# Altium integrated library Microchip Microcontroller 16-Bit PIC24F.IntLib: 123 symbols (part 3 of 7)
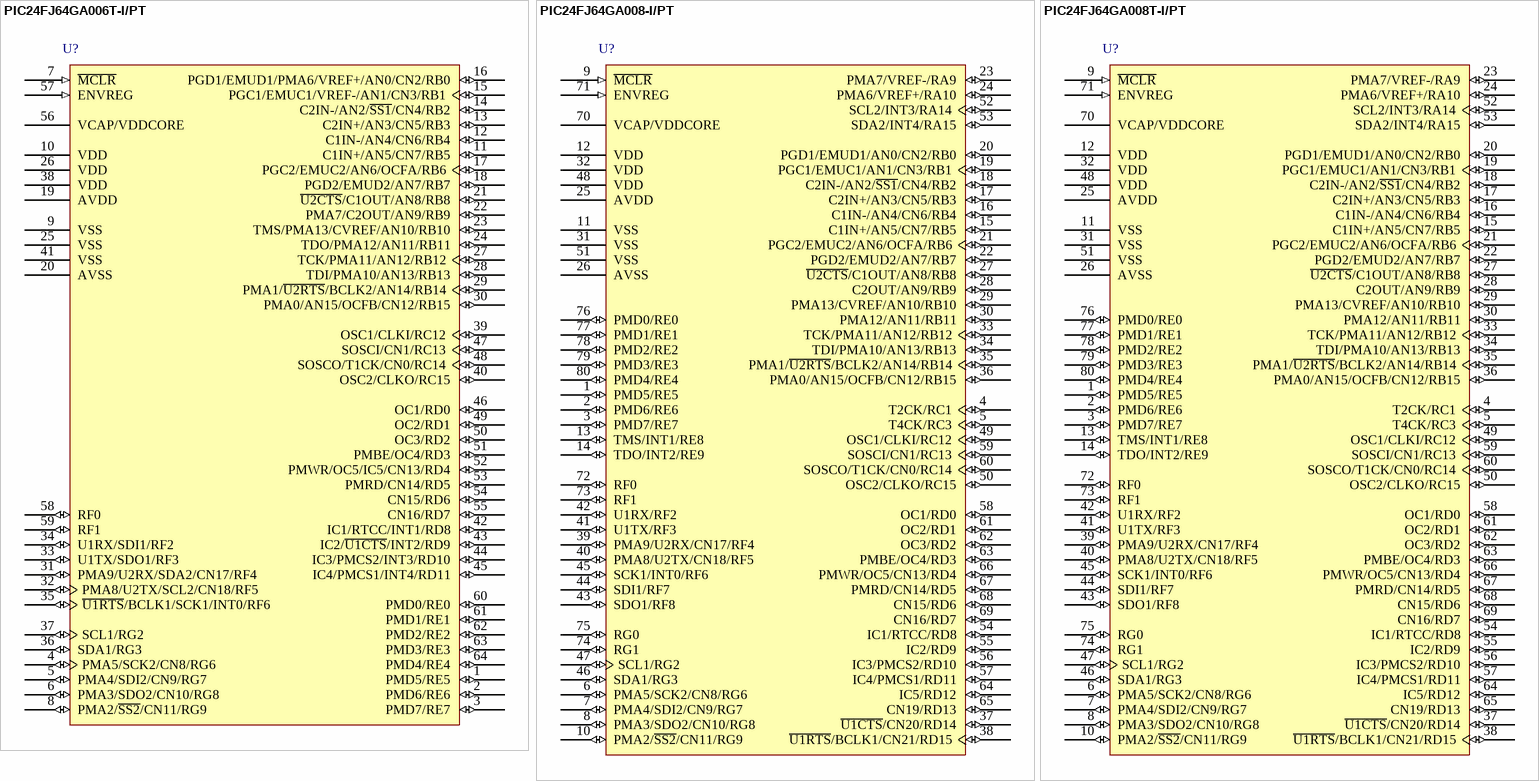
[diagram p37: symbols PIC24FJ64GA006T-I/PT to PIC24FJ64GA008T-I/PT]

## PIC24FJ64GA008-I/PT
designator U?
General Purpose 16-Bit Flash Microcontroller, 64KB Flash, 8KB SRAM, 80-Pin TQFP, Industrial Temperature; Published: 29-Jan-2009; DatasheetVersion: revD, Sep-2007; PackageVersion: revAW, Oct-2008; PackageReference: TQFP-PT80; Publisher: Altium Limited; PackageDescription: 80-Lead Thin Plastic Quad Flat Pack (PT) - 12x12x1mm Body, 2.00mm [TQFP]; Code_JEDEC: MS-026; ComponentLink1Description: Manufacturer Link; ComponentLink1URL: http://www.microchip.com; ComponentLink2Description: Datasheet; ComponentLink2URL: http://ww1.microchip.com/downloads/en/DeviceDoc/39747d.pdf; ComponentLink3Description: Packaging Specification; ComponentLink3URL: http://ww1.microchip.com/downloads/en/PackagingSpec/00049AW.pdf
footprint TQFP-PT80_N (Thin QFP, 80-Leads, Body 12x12mm, Pitch 0.5mm, IPC Medium Density)
footprint TQFP-PT80_L (Thin QFP, 80-Leads, Body 12x12mm, Pitch 0.5mm, IPC High Density)
footprint TQFP-PT80_M (Thin QFP, 80-Leads, Body 12x12mm, Pitch 0.5mm, IPC Low Density)
pins: 1 PMD5/RE5 (io), 2 PMD6/RE6 (io), 3 PMD7/RE7 (io), 4 T2CK/RC1 (io), 5 T4CK/RC3 (io), 6 PMA5/SCK2/CN8/RG6 (io), 7 PMA4/SDI2/CN9/RG7 (io), 8 PMA3/SDO2/CN10/RG8 (io), 9 ~{MCLR} (in), 10 PMA2/~{SS2}/CN11/RG9 (io), 11 VSS (power), 12 VDD (power), 13 TMS/INT1/RE8 (io), 14 TDO/INT2/RE9 (io), 15 C1IN+/AN5/CN7/RB5 (io), 16 C1IN-/AN4/CN6/RB4 (io), 17 C2IN+/AN3/CN5/RB3 (io), 18 C2IN-/AN2/~{SS1}/CN4/RB2 (io), 19 PGC1/EMUC1/AN1/CN3/RB1 (io), 20 PGD1/EMUD1/AN0/CN2/RB0 (io), 21 PGC2/EMUC2/AN6/OCFA/RB6 (io), 22 PGD2/EMUD2/AN7/RB7 (io), 23 PMA7/VREF-/RA9 (io), 24 PMA6/VREF+/RA10 (io), 25 AVDD (power), 26 AVSS (power), 27 ~{U2CTS}/C1OUT/AN8/RB8 (io), 28 C2OUT/AN9/RB9 (io), 29 PMA13/CVREF/AN10/RB10 (io), 30 PMA12/AN11/RB11 (io), 31 VSS (power), 32 VDD (power), 33 TCK/PMA11/AN12/RB12 (io), 34 TDI/PMA10/AN13/RB13 (io), 35 PMA1/~{U2RTS}/BCLK2/AN14/RB14 (io), 36 PMA0/AN15/OCFB/CN12/RB15 (io), 37 ~{U1CTS}/CN20/RD14 (io), 38 ~{U1RTS}/BCLK1/CN21/RD15 (io), 39 PMA9/U2RX/CN17/RF4 (io), 40 PMA8/U2TX/CN18/RF5 (io), 41 U1TX/RF3 (io), 42 U1RX/RF2 (io), 43 SDO1/RF8 (io), 44 SDI1/RF7 (io), 45 SCK1/INT0/RF6 (io), 46 SDA1/RG3 (io), 47 SCL1/RG2 (io), 48 VDD (power), 49 OSC1/CLKI/RC12 (io), 50 OSC2/CLKO/RC15 (io), 51 VSS (power), 52 SCL2/INT3/RA14 (io), 53 SDA2/INT4/RA15 (io), 54 IC1/RTCC/RD8 (io), 55 IC2/RD9 (io), 56 IC3/PMCS2/RD10 (io), 57 IC4/PMCS1/RD11 (io), 58 OC1/RD0 (io), 59 SOSCI/CN1/RC13 (io), 60 SOSCO/T1CK/CN0/RC14 (io), 61 OC2/RD1 (io), 62 OC3/RD2 (io), 63 PMBE/OC4/RD3 (io), 64 IC5/RD12 (io), 65 CN19/RD13 (io), 66 PMWR/OC5/CN13/RD4 (io), 67 PMRD/CN14/RD5 (io), 68 CN15/RD6 (io), 69 CN16/RD7 (io), 70 VCAP/VDDCORE (power), 71 ENVREG (in), 72 RF0 (io), 73 RF1 (io), 74 RG1 (io), 75 RG0 (io), 76 PMD0/RE0 (io), 77 PMD1/RE1 (io), 78 PMD2/RE2 (io), 79 PMD3/RE3 (io), 80 PMD4/RE4 (io)

## PIC24FJ64GA008T-I/PT
designator U?
General Purpose 16-Bit Flash Microcontroller, 64KB Flash, 8KB SRAM, 80-Pin TQFP, Industrial Temperature, Tape and Reel; Published: 29-Jan-2009; DatasheetVersion: revD, Sep-2007; PackageVersion: revAW, Oct-2008; PackageReference: TQFP-PT80; Publisher: Altium Limited; PackageDescription: 80-Lead Thin Plastic Quad Flat Pack (PT) - 12x12x1mm Body, 2.00mm [TQFP]; Code_JEDEC: MS-026; ComponentLink1Description: Manufacturer Link; ComponentLink1URL: http://www.microchip.com; ComponentLink2Description: Datasheet; ComponentLink2URL: http://ww1.microchip.com/downloads/en/DeviceDoc/39747d.pdf; ComponentLink3Description: Packaging Specification; ComponentLink3URL: http://ww1.microchip.com/downloads/en/PackagingSpec/00049AW.pdf
footprint TQFP-PT80_N (Thin QFP, 80-Leads, Body 12x12mm, Pitch 0.5mm, IPC Medium Density)
footprint TQFP-PT80_L (Thin QFP, 80-Leads, Body 12x12mm, Pitch 0.5mm, IPC High Density)
footprint TQFP-PT80_M (Thin QFP, 80-Leads, Body 12x12mm, Pitch 0.5mm, IPC Low Density)
pins: 1 PMD5/RE5 (io), 2 PMD6/RE6 (io), 3 PMD7/RE7 (io), 4 T2CK/RC1 (io), 5 T4CK/RC3 (io), 6 PMA5/SCK2/CN8/RG6 (io), 7 PMA4/SDI2/CN9/RG7 (io), 8 PMA3/SDO2/CN10/RG8 (io), 9 ~{MCLR} (in), 10 PMA2/~{SS2}/CN11/RG9 (io), 11 VSS (power), 12 VDD (power), 13 TMS/INT1/RE8 (io), 14 TDO/INT2/RE9 (io), 15 C1IN+/AN5/CN7/RB5 (io), 16 C1IN-/AN4/CN6/RB4 (io), 17 C2IN+/AN3/CN5/RB3 (io), 18 C2IN-/AN2/~{SS1}/CN4/RB2 (io), 19 PGC1/EMUC1/AN1/CN3/RB1 (io), 20 PGD1/EMUD1/AN0/CN2/RB0 (io), 21 PGC2/EMUC2/AN6/OCFA/RB6 (io), 22 PGD2/EMUD2/AN7/RB7 (io), 23 PMA7/VREF-/RA9 (io), 24 PMA6/VREF+/RA10 (io), 25 AVDD (power), 26 AVSS (power), 27 ~{U2CTS}/C1OUT/AN8/RB8 (io), 28 C2OUT/AN9/RB9 (io), 29 PMA13/CVREF/AN10/RB10 (io), 30 PMA12/AN11/RB11 (io), 31 VSS (power), 32 VDD (power), 33 TCK/PMA11/AN12/RB12 (io), 34 TDI/PMA10/AN13/RB13 (io), 35 PMA1/~{U2RTS}/BCLK2/AN14/RB14 (io), 36 PMA0/AN15/OCFB/CN12/RB15 (io), 37 ~{U1CTS}/CN20/RD14 (io), 38 ~{U1RTS}/BCLK1/CN21/RD15 (io), 39 PMA9/U2RX/CN17/RF4 (io), 40 PMA8/U2TX/CN18/RF5 (io), 41 U1TX/RF3 (io), 42 U1RX/RF2 (io), 43 SDO1/RF8 (io), 44 SDI1/RF7 (io), 45 SCK1/INT0/RF6 (io), 46 SDA1/RG3 (io), 47 SCL1/RG2 (io), 48 VDD (power), 49 OSC1/CLKI/RC12 (io), 50 OSC2/CLKO/RC15 (io), 51 VSS (power), 52 SCL2/INT3/RA14 (io), 53 SDA2/INT4/RA15 (io), 54 IC1/RTCC/RD8 (io), 55 IC2/RD9 (io), 56 IC3/PMCS2/RD10 (io), 57 IC4/PMCS1/RD11 (io), 58 OC1/RD0 (io), 59 SOSCI/CN1/RC13 (io), 60 SOSCO/T1CK/CN0/RC14 (io), 61 OC2/RD1 (io), 62 OC3/RD2 (io), 63 PMBE/OC4/RD3 (io), 64 IC5/RD12 (io), 65 CN19/RD13 (io), 66 PMWR/OC5/CN13/RD4 (io), 67 PMRD/CN14/RD5 (io), 68 CN15/RD6 (io), 69 CN16/RD7 (io), 70 VCAP/VDDCORE (power), 71 ENVREG (in), 72 RF0 (io), 73 RF1 (io), 74 RG1 (io), 75 RG0 (io), 76 PMD0/RE0 (io), 77 PMD1/RE1 (io), 78 PMD2/RE2 (io), 79 PMD3/RE3 (io), 80 PMD4/RE4 (io)

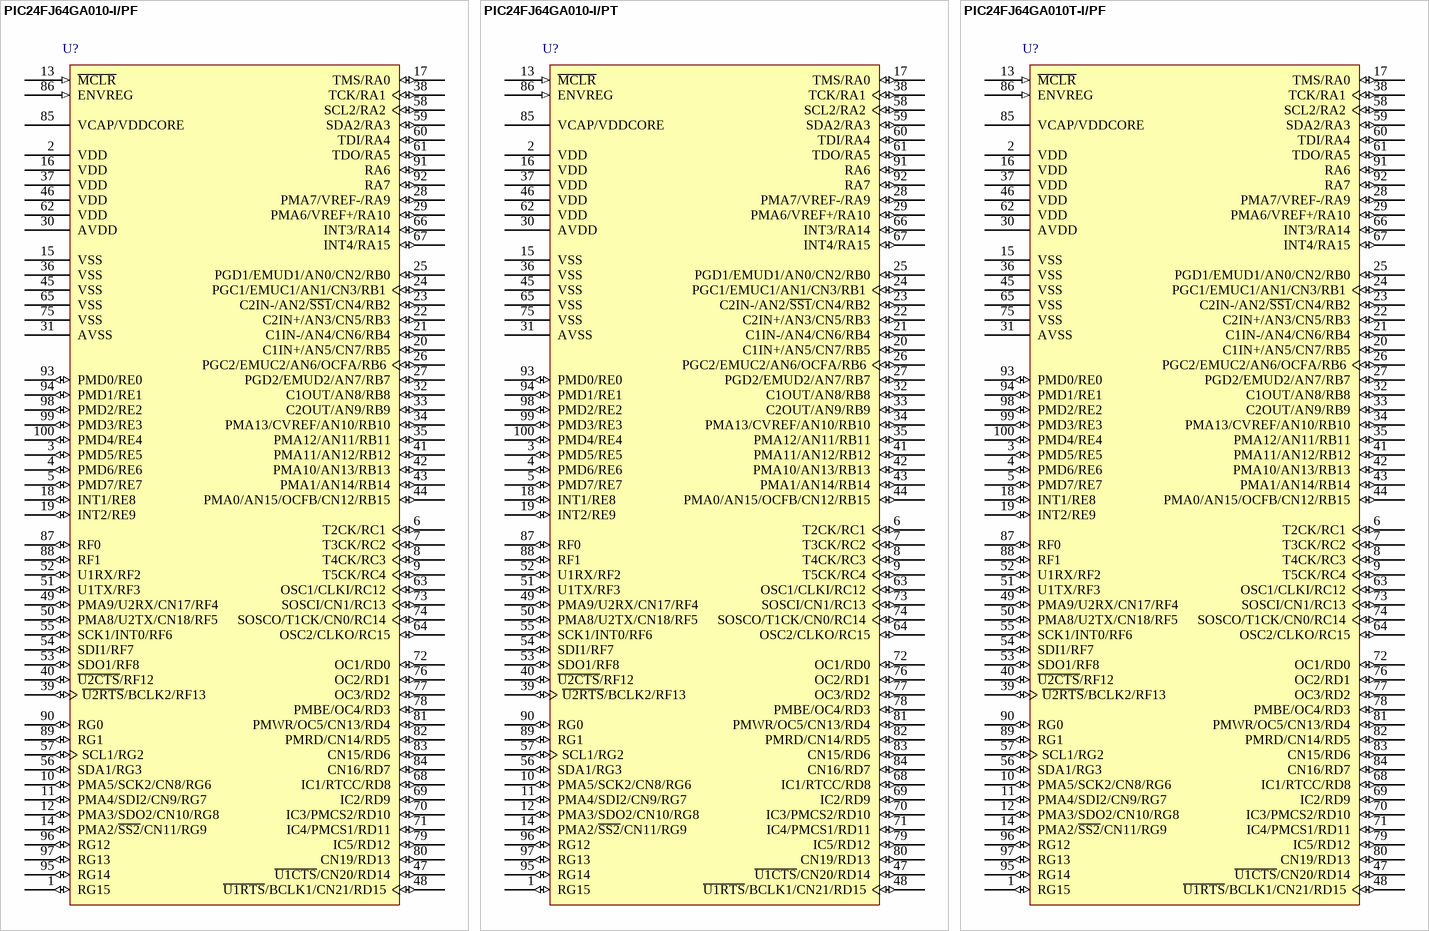
[diagram p9: symbols PIC24FJ64GA010-I/PF to PIC24FJ64GA010T-I/PF]

## PIC24FJ64GA010-I/PF
designator U?
General Purpose 16-Bit Flash Microcontroller, 64KB Flash, 8KB SRAM, 100-Pin TQFP (14x14x1 mm), Industrial Temperature; Published: 29-Jan-2009; DatasheetVersion: revD, Sep-2007; PackageVersion: revAW, Oct-2008; PackageReference: TQFP-PF100; Publisher: Altium Limited; PackageDescription: 100-Lead Thin Plastic Quad Flat Pack (PF) - 14x14x1mm Body, 2.00mm [TQFP]; ComponentLink1Description: Manufacturer Link; ComponentLink1URL: http://www.microchip.com; ComponentLink2Description: Datasheet; ComponentLink2URL: http://ww1.microchip.com/downloads/en/DeviceDoc/39747d.pdf; ComponentLink3Description: Packaging Specification; ComponentLink3URL: http://ww1.microchip.com/downloads/en/PackagingSpec/00049AW.pdf
footprint TQFP-PF100_N (Thin QFP, 100-Leads, Body 14x14mm, Pitch 0.5mm, IPC Medium Density)
footprint TQFP-PF100_L (Thin QFP, 100-Leads, Body 14x14mm, Pitch 0.5mm, IPC High Density)
footprint TQFP-PF100_M (Thin QFP, 100-Leads, Body 14x14mm, Pitch 0.5mm, IPC Low Density)
pins: 1 RG15 (io), 2 VDD (power), 3 PMD5/RE5 (io), 4 PMD6/RE6 (io), 5 PMD7/RE7 (io), 6 T2CK/RC1 (io), 7 T3CK/RC2 (io), 8 T4CK/RC3 (io), 9 T5CK/RC4 (io), 10 PMA5/SCK2/CN8/RG6 (io), 11 PMA4/SDI2/CN9/RG7 (io), 12 PMA3/SDO2/CN10/RG8 (io), 13 ~{MCLR} (in), 14 PMA2/~{SS2}/CN11/RG9 (io), 15 VSS (power), 16 VDD (power), 17 TMS/RA0 (io), 18 INT1/RE8 (io), 19 INT2/RE9 (io), 20 C1IN+/AN5/CN7/RB5 (io), 21 C1IN-/AN4/CN6/RB4 (io), 22 C2IN+/AN3/CN5/RB3 (io), 23 C2IN-/AN2/~{SS1}/CN4/RB2 (io), 24 PGC1/EMUC1/AN1/CN3/RB1 (io), 25 PGD1/EMUD1/AN0/CN2/RB0 (io), 26 PGC2/EMUC2/AN6/OCFA/RB6 (io), 27 PGD2/EMUD2/AN7/RB7 (io), 28 PMA7/VREF-/RA9 (io), 29 PMA6/VREF+/RA10 (io), 30 AVDD (power), 31 AVSS (power), 32 C1OUT/AN8/RB8 (io), 33 C2OUT/AN9/RB9 (io), 34 PMA13/CVREF/AN10/RB10 (io), 35 PMA12/AN11/RB11 (io), 36 VSS (power), 37 VDD (power), 38 TCK/RA1 (io), 39 ~{U2RTS}/BCLK2/RF13 (io), 40 ~{U2CTS}/RF12 (io), 41 PMA11/AN12/RB12 (io), 42 PMA10/AN13/RB13 (io), 43 PMA1/AN14/RB14 (io), 44 PMA0/AN15/OCFB/CN12/RB15 (io), 45 VSS (power), 46 VDD (power), 47 ~{U1CTS}/CN20/RD14 (io), 48 ~{U1RTS}/BCLK1/CN21/RD15 (io), 49 PMA9/U2RX/CN17/RF4 (io), 50 PMA8/U2TX/CN18/RF5 (io), 51 U1TX/RF3 (io), 52 U1RX/RF2 (io), 53 SDO1/RF8 (io), 54 SDI1/RF7 (io), 55 SCK1/INT0/RF6 (io), 56 SDA1/RG3 (io), 57 SCL1/RG2 (io), 58 SCL2/RA2 (io), 59 SDA2/RA3 (io), 60 TDI/RA4 (io), 61 TDO/RA5 (io), 62 VDD (power), 63 OSC1/CLKI/RC12 (io), 64 OSC2/CLKO/RC15 (io), 65 VSS (power), 66 INT3/RA14 (io), 67 INT4/RA15 (io), 68 IC1/RTCC/RD8 (io), 69 IC2/RD9 (io), 70 IC3/PMCS2/RD10 (io), 71 IC4/PMCS1/RD11 (io), 72 OC1/RD0 (io), 73 SOSCI/CN1/RC13 (io), 74 SOSCO/T1CK/CN0/RC14 (io), 75 VSS (power), 76 OC2/RD1 (io), 77 OC3/RD2 (io), 78 PMBE/OC4/RD3 (io), 79 IC5/RD12 (io), 80 CN19/RD13 (io), 81 PMWR/OC5/CN13/RD4 (io), 82 PMRD/CN14/RD5 (io), 83 CN15/RD6 (io), 84 CN16/RD7 (io), 85 VCAP/VDDCORE (power), 86 ENVREG (in), 87 RF0 (io), 88 RF1 (io), 89 RG1 (io), 90 RG0 (io), 91 RA6 (io), 92 RA7 (io), 93 PMD0/RE0 (io), 94 PMD1/RE1 (io), 95 RG14 (io), 96 RG12 (io), 97 RG13 (io), 98 PMD2/RE2 (io), 99 PMD3/RE3 (io), 100 PMD4/RE4 (io)

## PIC24FJ64GA010-I/PT
designator U?
General Purpose 16-Bit Flash Microcontroller, 64KB Flash, 8KB SRAM, 100-Pin TQFP (12x12x1 mm), Industrial Temperature; Published: 29-Jan-2009; DatasheetVersion: revD, Sep-2007; PackageVersion: revAW, Oct-2008; PackageReference: TQFP-PT100; Publisher: Altium Limited; PackageDescription: 100-Lead Plastic Thin Quad Flatpack (PT) - 12x12x1mm Body, 2.00mm [TQFP]; ComponentLink1Description: Manufacturer Link; ComponentLink1URL: http://www.microchip.com; ComponentLink2Description: Datasheet; ComponentLink2URL: http://ww1.microchip.com/downloads/en/DeviceDoc/39747d.pdf; ComponentLink3Description: Packaging Specification; ComponentLink3URL: http://ww1.microchip.com/downloads/en/PackagingSpec/00049AW.pdf
footprint TQFP-PT100_N (Thin QFP, 100-Leads, Body 12x12mm, Pitch 0.4mm, IPC Medium Density)
footprint TQFP-PT100_L (Thin QFP, 100-Leads, Body 12x12mm, Pitch 0.4mm, IPC High Density)
footprint TQFP-PT100_M (Thin QFP, 100-Leads, Body 12x12mm, Pitch 0.4mm, IPC Low Density)
pins: 1 RG15 (io), 2 VDD (power), 3 PMD5/RE5 (io), 4 PMD6/RE6 (io), 5 PMD7/RE7 (io), 6 T2CK/RC1 (io), 7 T3CK/RC2 (io), 8 T4CK/RC3 (io), 9 T5CK/RC4 (io), 10 PMA5/SCK2/CN8/RG6 (io), 11 PMA4/SDI2/CN9/RG7 (io), 12 PMA3/SDO2/CN10/RG8 (io), 13 ~{MCLR} (in), 14 PMA2/~{SS2}/CN11/RG9 (io), 15 VSS (power), 16 VDD (power), 17 TMS/RA0 (io), 18 INT1/RE8 (io), 19 INT2/RE9 (io), 20 C1IN+/AN5/CN7/RB5 (io), 21 C1IN-/AN4/CN6/RB4 (io), 22 C2IN+/AN3/CN5/RB3 (io), 23 C2IN-/AN2/~{SS1}/CN4/RB2 (io), 24 PGC1/EMUC1/AN1/CN3/RB1 (io), 25 PGD1/EMUD1/AN0/CN2/RB0 (io), 26 PGC2/EMUC2/AN6/OCFA/RB6 (io), 27 PGD2/EMUD2/AN7/RB7 (io), 28 PMA7/VREF-/RA9 (io), 29 PMA6/VREF+/RA10 (io), 30 AVDD (power), 31 AVSS (power), 32 C1OUT/AN8/RB8 (io), 33 C2OUT/AN9/RB9 (io), 34 PMA13/CVREF/AN10/RB10 (io), 35 PMA12/AN11/RB11 (io), 36 VSS (power), 37 VDD (power), 38 TCK/RA1 (io), 39 ~{U2RTS}/BCLK2/RF13 (io), 40 ~{U2CTS}/RF12 (io), 41 PMA11/AN12/RB12 (io), 42 PMA10/AN13/RB13 (io), 43 PMA1/AN14/RB14 (io), 44 PMA0/AN15/OCFB/CN12/RB15 (io), 45 VSS (power), 46 VDD (power), 47 ~{U1CTS}/CN20/RD14 (io), 48 ~{U1RTS}/BCLK1/CN21/RD15 (io), 49 PMA9/U2RX/CN17/RF4 (io), 50 PMA8/U2TX/CN18/RF5 (io), 51 U1TX/RF3 (io), 52 U1RX/RF2 (io), 53 SDO1/RF8 (io), 54 SDI1/RF7 (io), 55 SCK1/INT0/RF6 (io), 56 SDA1/RG3 (io), 57 SCL1/RG2 (io), 58 SCL2/RA2 (io), 59 SDA2/RA3 (io), 60 TDI/RA4 (io), 61 TDO/RA5 (io), 62 VDD (power), 63 OSC1/CLKI/RC12 (io), 64 OSC2/CLKO/RC15 (io), 65 VSS (power), 66 INT3/RA14 (io), 67 INT4/RA15 (io), 68 IC1/RTCC/RD8 (io), 69 IC2/RD9 (io), 70 IC3/PMCS2/RD10 (io), 71 IC4/PMCS1/RD11 (io), 72 OC1/RD0 (io), 73 SOSCI/CN1/RC13 (io), 74 SOSCO/T1CK/CN0/RC14 (io), 75 VSS (power), 76 OC2/RD1 (io), 77 OC3/RD2 (io), 78 PMBE/OC4/RD3 (io), 79 IC5/RD12 (io), 80 CN19/RD13 (io), 81 PMWR/OC5/CN13/RD4 (io), 82 PMRD/CN14/RD5 (io), 83 CN15/RD6 (io), 84 CN16/RD7 (io), 85 VCAP/VDDCORE (power), 86 ENVREG (in), 87 RF0 (io), 88 RF1 (io), 89 RG1 (io), 90 RG0 (io), 91 RA6 (io), 92 RA7 (io), 93 PMD0/RE0 (io), 94 PMD1/RE1 (io), 95 RG14 (io), 96 RG12 (io), 97 RG13 (io), 98 PMD2/RE2 (io), 99 PMD3/RE3 (io), 100 PMD4/RE4 (io)

## PIC24FJ64GA010T-I/PF
designator U?
General Purpose 16-Bit Flash Microcontroller, 64KB Flash, 8KB SRAM, 100-Pin TQFP (14x14x1 mm), Industrial Temperature, Tape and Reel; Published: 29-Jan-2009; DatasheetVersion: revD, Sep-2007; PackageVersion: revAW, Oct-2008; PackageReference: TQFP-PF100; Publisher: Altium Limited; PackageDescription: 100-Lead Thin Plastic Quad Flat Pack (PF) - 14x14x1mm Body, 2.00mm [TQFP]; ComponentLink1Description: Manufacturer Link; ComponentLink1URL: http://www.microchip.com; ComponentLink2Description: Datasheet; ComponentLink2URL: http://ww1.microchip.com/downloads/en/DeviceDoc/39747d.pdf; ComponentLink3Description: Packaging Specification; ComponentLink3URL: http://ww1.microchip.com/downloads/en/PackagingSpec/00049AW.pdf
footprint TQFP-PF100_N (Thin QFP, 100-Leads, Body 14x14mm, Pitch 0.5mm, IPC Medium Density)
footprint TQFP-PF100_L (Thin QFP, 100-Leads, Body 14x14mm, Pitch 0.5mm, IPC High Density)
footprint TQFP-PF100_M (Thin QFP, 100-Leads, Body 14x14mm, Pitch 0.5mm, IPC Low Density)
pins: 1 RG15 (io), 2 VDD (power), 3 PMD5/RE5 (io), 4 PMD6/RE6 (io), 5 PMD7/RE7 (io), 6 T2CK/RC1 (io), 7 T3CK/RC2 (io), 8 T4CK/RC3 (io), 9 T5CK/RC4 (io), 10 PMA5/SCK2/CN8/RG6 (io), 11 PMA4/SDI2/CN9/RG7 (io), 12 PMA3/SDO2/CN10/RG8 (io), 13 ~{MCLR} (in), 14 PMA2/~{SS2}/CN11/RG9 (io), 15 VSS (power), 16 VDD (power), 17 TMS/RA0 (io), 18 INT1/RE8 (io), 19 INT2/RE9 (io), 20 C1IN+/AN5/CN7/RB5 (io), 21 C1IN-/AN4/CN6/RB4 (io), 22 C2IN+/AN3/CN5/RB3 (io), 23 C2IN-/AN2/~{SS1}/CN4/RB2 (io), 24 PGC1/EMUC1/AN1/CN3/RB1 (io), 25 PGD1/EMUD1/AN0/CN2/RB0 (io), 26 PGC2/EMUC2/AN6/OCFA/RB6 (io), 27 PGD2/EMUD2/AN7/RB7 (io), 28 PMA7/VREF-/RA9 (io), 29 PMA6/VREF+/RA10 (io), 30 AVDD (power), 31 AVSS (power), 32 C1OUT/AN8/RB8 (io), 33 C2OUT/AN9/RB9 (io), 34 PMA13/CVREF/AN10/RB10 (io), 35 PMA12/AN11/RB11 (io), 36 VSS (power), 37 VDD (power), 38 TCK/RA1 (io), 39 ~{U2RTS}/BCLK2/RF13 (io), 40 ~{U2CTS}/RF12 (io), 41 PMA11/AN12/RB12 (io), 42 PMA10/AN13/RB13 (io), 43 PMA1/AN14/RB14 (io), 44 PMA0/AN15/OCFB/CN12/RB15 (io), 45 VSS (power), 46 VDD (power), 47 ~{U1CTS}/CN20/RD14 (io), 48 ~{U1RTS}/BCLK1/CN21/RD15 (io), 49 PMA9/U2RX/CN17/RF4 (io), 50 PMA8/U2TX/CN18/RF5 (io), 51 U1TX/RF3 (io), 52 U1RX/RF2 (io), 53 SDO1/RF8 (io), 54 SDI1/RF7 (io), 55 SCK1/INT0/RF6 (io), 56 SDA1/RG3 (io), 57 SCL1/RG2 (io), 58 SCL2/RA2 (io), 59 SDA2/RA3 (io), 60 TDI/RA4 (io), 61 TDO/RA5 (io), 62 VDD (power), 63 OSC1/CLKI/RC12 (io), 64 OSC2/CLKO/RC15 (io), 65 VSS (power), 66 INT3/RA14 (io), 67 INT4/RA15 (io), 68 IC1/RTCC/RD8 (io), 69 IC2/RD9 (io), 70 IC3/PMCS2/RD10 (io), 71 IC4/PMCS1/RD11 (io), 72 OC1/RD0 (io), 73 SOSCI/CN1/RC13 (io), 74 SOSCO/T1CK/CN0/RC14 (io), 75 VSS (power), 76 OC2/RD1 (io), 77 OC3/RD2 (io), 78 PMBE/OC4/RD3 (io), 79 IC5/RD12 (io), 80 CN19/RD13 (io), 81 PMWR/OC5/CN13/RD4 (io), 82 PMRD/CN14/RD5 (io), 83 CN15/RD6 (io), 84 CN16/RD7 (io), 85 VCAP/VDDCORE (power), 86 ENVREG (in), 87 RF0 (io), 88 RF1 (io), 89 RG1 (io), 90 RG0 (io), 91 RA6 (io), 92 RA7 (io), 93 PMD0/RE0 (io), 94 PMD1/RE1 (io), 95 RG14 (io), 96 RG12 (io), 97 RG13 (io), 98 PMD2/RE2 (io), 99 PMD3/RE3 (io), 100 PMD4/RE4 (io)

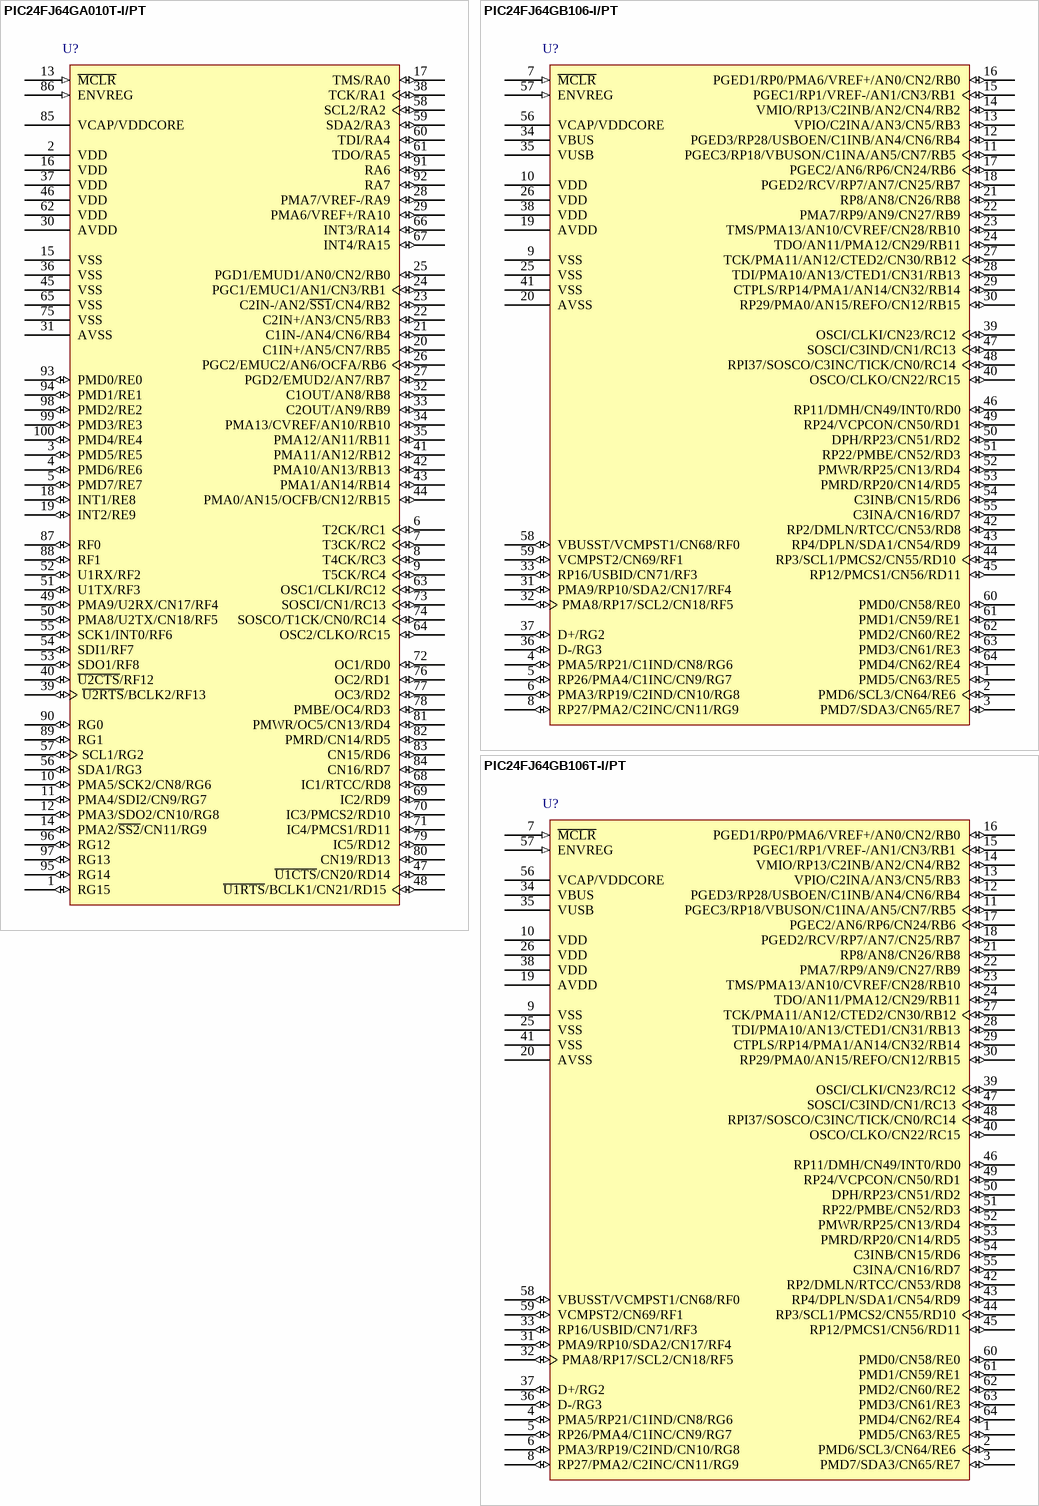
[diagram p10: symbols PIC24FJ64GA010T-I/PT to PIC24FJ64GB106T-I/PT]

## PIC24FJ64GA010T-I/PT
designator U?
General Purpose 16-Bit Flash Microcontroller, 64KB Flash, 8KB SRAM, 100-Pin TQFP (12x12x1 mm), Industrial Temperature, Tape and Reel; Published: 29-Jan-2009; DatasheetVersion: revD, Sep-2007; PackageVersion: revAW, Oct-2008; PackageReference: TQFP-PT100; Publisher: Altium Limited; PackageDescription: 100-Lead Plastic Thin Quad Flatpack (PT) - 12x12x1mm Body, 2.00mm [TQFP]; ComponentLink1Description: Manufacturer Link; ComponentLink1URL: http://www.microchip.com; ComponentLink2Description: Datasheet; ComponentLink2URL: http://ww1.microchip.com/downloads/en/DeviceDoc/39747d.pdf; ComponentLink3Description: Packaging Specification; ComponentLink3URL: http://ww1.microchip.com/downloads/en/PackagingSpec/00049AW.pdf
footprint TQFP-PT100_N (Thin QFP, 100-Leads, Body 12x12mm, Pitch 0.4mm, IPC Medium Density)
footprint TQFP-PT100_L (Thin QFP, 100-Leads, Body 12x12mm, Pitch 0.4mm, IPC High Density)
footprint TQFP-PT100_M (Thin QFP, 100-Leads, Body 12x12mm, Pitch 0.4mm, IPC Low Density)
pins: 1 RG15 (io), 2 VDD (power), 3 PMD5/RE5 (io), 4 PMD6/RE6 (io), 5 PMD7/RE7 (io), 6 T2CK/RC1 (io), 7 T3CK/RC2 (io), 8 T4CK/RC3 (io), 9 T5CK/RC4 (io), 10 PMA5/SCK2/CN8/RG6 (io), 11 PMA4/SDI2/CN9/RG7 (io), 12 PMA3/SDO2/CN10/RG8 (io), 13 ~{MCLR} (in), 14 PMA2/~{SS2}/CN11/RG9 (io), 15 VSS (power), 16 VDD (power), 17 TMS/RA0 (io), 18 INT1/RE8 (io), 19 INT2/RE9 (io), 20 C1IN+/AN5/CN7/RB5 (io), 21 C1IN-/AN4/CN6/RB4 (io), 22 C2IN+/AN3/CN5/RB3 (io), 23 C2IN-/AN2/~{SS1}/CN4/RB2 (io), 24 PGC1/EMUC1/AN1/CN3/RB1 (io), 25 PGD1/EMUD1/AN0/CN2/RB0 (io), 26 PGC2/EMUC2/AN6/OCFA/RB6 (io), 27 PGD2/EMUD2/AN7/RB7 (io), 28 PMA7/VREF-/RA9 (io), 29 PMA6/VREF+/RA10 (io), 30 AVDD (power), 31 AVSS (power), 32 C1OUT/AN8/RB8 (io), 33 C2OUT/AN9/RB9 (io), 34 PMA13/CVREF/AN10/RB10 (io), 35 PMA12/AN11/RB11 (io), 36 VSS (power), 37 VDD (power), 38 TCK/RA1 (io), 39 ~{U2RTS}/BCLK2/RF13 (io), 40 ~{U2CTS}/RF12 (io), 41 PMA11/AN12/RB12 (io), 42 PMA10/AN13/RB13 (io), 43 PMA1/AN14/RB14 (io), 44 PMA0/AN15/OCFB/CN12/RB15 (io), 45 VSS (power), 46 VDD (power), 47 ~{U1CTS}/CN20/RD14 (io), 48 ~{U1RTS}/BCLK1/CN21/RD15 (io), 49 PMA9/U2RX/CN17/RF4 (io), 50 PMA8/U2TX/CN18/RF5 (io), 51 U1TX/RF3 (io), 52 U1RX/RF2 (io), 53 SDO1/RF8 (io), 54 SDI1/RF7 (io), 55 SCK1/INT0/RF6 (io), 56 SDA1/RG3 (io), 57 SCL1/RG2 (io), 58 SCL2/RA2 (io), 59 SDA2/RA3 (io), 60 TDI/RA4 (io), 61 TDO/RA5 (io), 62 VDD (power), 63 OSC1/CLKI/RC12 (io), 64 OSC2/CLKO/RC15 (io), 65 VSS (power), 66 INT3/RA14 (io), 67 INT4/RA15 (io), 68 IC1/RTCC/RD8 (io), 69 IC2/RD9 (io), 70 IC3/PMCS2/RD10 (io), 71 IC4/PMCS1/RD11 (io), 72 OC1/RD0 (io), 73 SOSCI/CN1/RC13 (io), 74 SOSCO/T1CK/CN0/RC14 (io), 75 VSS (power), 76 OC2/RD1 (io), 77 OC3/RD2 (io), 78 PMBE/OC4/RD3 (io), 79 IC5/RD12 (io), 80 CN19/RD13 (io), 81 PMWR/OC5/CN13/RD4 (io), 82 PMRD/CN14/RD5 (io), 83 CN15/RD6 (io), 84 CN16/RD7 (io), 85 VCAP/VDDCORE (power), 86 ENVREG (in), 87 RF0 (io), 88 RF1 (io), 89 RG1 (io), 90 RG0 (io), 91 RA6 (io), 92 RA7 (io), 93 PMD0/RE0 (io), 94 PMD1/RE1 (io), 95 RG14 (io), 96 RG12 (io), 97 RG13 (io), 98 PMD2/RE2 (io), 99 PMD3/RE3 (io), 100 PMD4/RE4 (io)

## PIC24FJ64GB106-I/PT
designator U?
General Purpose 16-Bit Flash Microcontroller with USB On-The-Go, 64KB Flash, 16KB SRAM, 64-Pin TQFP, Industrial Temperature; Published: 29-Jan-2009; DatasheetVersion: revB, Mar-2008; PackageVersion: revAW, Oct-2008; PackageReference: TQFP-PT64; Publisher: Altium Limited; PackageDescription: 64-Lead Thin Plastic Quad Flat Pack (PT) - 10x10x1mm Body, 2.00mm [TQFP]; Code_JEDEC: MS-026; ComponentLink1Description: Manufacturer Link; ComponentLink1URL: http://www.microchip.com; ComponentLink2Description: Datasheet; ComponentLink2URL: http://ww1.microchip.com/downloads/en/DeviceDoc/39897b.pdf; ComponentLink3Description: Packaging Specification; ComponentLink3URL: http://ww1.microchip.com/downloads/en/PackagingSpec/00049AW.pdf
footprint TQFP-PT64_N (Thin QFP, 64-Leads, Body 10x10mm, Pitch 0.5mm, IPC Medium Density)
footprint TQFP-PT64_L (Thin QFP, 64-Leads, Body 10x10mm, Pitch 0.5mm, IPC High Density)
footprint TQFP-PT64_M (Thin QFP, 64-Leads, Body 10x10mm, Pitch 0.5mm, IPC Low Density)
pins: 1 PMD5/CN63/RE5 (io), 2 PMD6/SCL3/CN64/RE6 (io), 3 PMD7/SDA3/CN65/RE7 (io), 4 PMA5/RP21/C1IND/CN8/RG6 (io), 5 RP26/PMA4/C1INC/CN9/RG7 (io), 6 PMA3/RP19/C2IND/CN10/RG8 (io), 7 ~{MCLR} (in), 8 RP27/PMA2/C2INC/CN11/RG9 (io), 9 VSS (power), 10 VDD (power), 11 PGEC3/RP18/VBUSON/C1INA/AN5/CN7/RB5 (io), 12 PGED3/RP28/USBOEN/C1INB/AN4/CN6/RB4 (io), 13 VPIO/C2INA/AN3/CN5/RB3 (io), 14 VMIO/RP13/C2INB/AN2/CN4/RB2 (io), 15 PGEC1/RP1/VREF-/AN1/CN3/RB1 (io), 16 PGED1/RP0/PMA6/VREF+/AN0/CN2/RB0 (io), 17 PGEC2/AN6/RP6/CN24/RB6 (io), 18 PGED2/RCV/RP7/AN7/CN25/RB7 (io), 19 AVDD (power), 20 AVSS (power), 21 RP8/AN8/CN26/RB8 (io), 22 PMA7/RP9/AN9/CN27/RB9 (io), 23 TMS/PMA13/AN10/CVREF/CN28/RB10 (io), 24 TDO/AN11/PMA12/CN29/RB11 (io), 25 VSS (power), 26 VDD (power), 27 TCK/PMA11/AN12/CTED2/CN30/RB12 (io), 28 TDI/PMA10/AN13/CTED1/CN31/RB13 (io), 29 CTPLS/RP14/PMA1/AN14/CN32/RB14 (io), 30 RP29/PMA0/AN15/REFO/CN12/RB15 (io), 31 PMA9/RP10/SDA2/CN17/RF4 (io), 32 PMA8/RP17/SCL2/CN18/RF5 (io), 33 RP16/USBID/CN71/RF3 (io), 34 VBUS (power), 35 VUSB (power), 36 D-/RG3 (io), 37 D+/RG2 (io), 38 VDD (power), 39 OSCI/CLKI/CN23/RC12 (io), 40 OSCO/CLKO/CN22/RC15 (io), 41 VSS (power), 42 RP2/DMLN/RTCC/CN53/RD8 (io), 43 RP4/DPLN/SDA1/CN54/RD9 (io), 44 RP3/SCL1/PMCS2/CN55/RD10 (io), 45 RP12/PMCS1/CN56/RD11 (io), 46 RP11/DMH/CN49/INT0/RD0 (io), 47 SOSCI/C3IND/CN1/RC13 (io), 48 RPI37/SOSCO/C3INC/TICK/CN0/RC14 (io), 49 RP24/VCPCON/CN50/RD1 (io), 50 DPH/RP23/CN51/RD2 (io), 51 RP22/PMBE/CN52/RD3 (io), 52 PMWR/RP25/CN13/RD4 (io), 53 PMRD/RP20/CN14/RD5 (io), 54 C3INB/CN15/RD6 (io), 55 C3INA/CN16/RD7 (io), 56 VCAP/VDDCORE (power), 57 ENVREG (in), 58 VBUSST/VCMPST1/CN68/RF0 (io), 59 VCMPST2/CN69/RF1 (io), 60 PMD0/CN58/RE0 (io), 61 PMD1/CN59/RE1 (io), 62 PMD2/CN60/RE2 (io), 63 PMD3/CN61/RE3 (io), 64 PMD4/CN62/RE4 (io)

## PIC24FJ64GB106T-I/PT
designator U?
General Purpose 16-Bit Flash Microcontroller with USB On-The-Go, 64KB Flash, 16KB SRAM, 64-Pin TQFP, Industrial Temperature, Tape and Reel; Published: 29-Jan-2009; DatasheetVersion: revB, Mar-2008; PackageVersion: revAW, Oct-2008; PackageReference: TQFP-PT64; Publisher: Altium Limited; PackageDescription: 64-Lead Thin Plastic Quad Flat Pack (PT) - 10x10x1mm Body, 2.00mm [TQFP]; Code_JEDEC: MS-026; ComponentLink1Description: Manufacturer Link; ComponentLink1URL: http://www.microchip.com; ComponentLink2Description: Datasheet; ComponentLink2URL: http://ww1.microchip.com/downloads/en/DeviceDoc/39897b.pdf; ComponentLink3Description: Packaging Specification; ComponentLink3URL: http://ww1.microchip.com/downloads/en/PackagingSpec/00049AW.pdf
footprint TQFP-PT64_N (Thin QFP, 64-Leads, Body 10x10mm, Pitch 0.5mm, IPC Medium Density)
footprint TQFP-PT64_L (Thin QFP, 64-Leads, Body 10x10mm, Pitch 0.5mm, IPC High Density)
footprint TQFP-PT64_M (Thin QFP, 64-Leads, Body 10x10mm, Pitch 0.5mm, IPC Low Density)
pins: 1 PMD5/CN63/RE5 (io), 2 PMD6/SCL3/CN64/RE6 (io), 3 PMD7/SDA3/CN65/RE7 (io), 4 PMA5/RP21/C1IND/CN8/RG6 (io), 5 RP26/PMA4/C1INC/CN9/RG7 (io), 6 PMA3/RP19/C2IND/CN10/RG8 (io), 7 ~{MCLR} (in), 8 RP27/PMA2/C2INC/CN11/RG9 (io), 9 VSS (power), 10 VDD (power), 11 PGEC3/RP18/VBUSON/C1INA/AN5/CN7/RB5 (io), 12 PGED3/RP28/USBOEN/C1INB/AN4/CN6/RB4 (io), 13 VPIO/C2INA/AN3/CN5/RB3 (io), 14 VMIO/RP13/C2INB/AN2/CN4/RB2 (io), 15 PGEC1/RP1/VREF-/AN1/CN3/RB1 (io), 16 PGED1/RP0/PMA6/VREF+/AN0/CN2/RB0 (io), 17 PGEC2/AN6/RP6/CN24/RB6 (io), 18 PGED2/RCV/RP7/AN7/CN25/RB7 (io), 19 AVDD (power), 20 AVSS (power), 21 RP8/AN8/CN26/RB8 (io), 22 PMA7/RP9/AN9/CN27/RB9 (io), 23 TMS/PMA13/AN10/CVREF/CN28/RB10 (io), 24 TDO/AN11/PMA12/CN29/RB11 (io), 25 VSS (power), 26 VDD (power), 27 TCK/PMA11/AN12/CTED2/CN30/RB12 (io), 28 TDI/PMA10/AN13/CTED1/CN31/RB13 (io), 29 CTPLS/RP14/PMA1/AN14/CN32/RB14 (io), 30 RP29/PMA0/AN15/REFO/CN12/RB15 (io), 31 PMA9/RP10/SDA2/CN17/RF4 (io), 32 PMA8/RP17/SCL2/CN18/RF5 (io), 33 RP16/USBID/CN71/RF3 (io), 34 VBUS (power), 35 VUSB (power), 36 D-/RG3 (io), 37 D+/RG2 (io), 38 VDD (power), 39 OSCI/CLKI/CN23/RC12 (io), 40 OSCO/CLKO/CN22/RC15 (io), 41 VSS (power), 42 RP2/DMLN/RTCC/CN53/RD8 (io), 43 RP4/DPLN/SDA1/CN54/RD9 (io), 44 RP3/SCL1/PMCS2/CN55/RD10 (io), 45 RP12/PMCS1/CN56/RD11 (io), 46 RP11/DMH/CN49/INT0/RD0 (io), 47 SOSCI/C3IND/CN1/RC13 (io), 48 RPI37/SOSCO/C3INC/TICK/CN0/RC14 (io), 49 RP24/VCPCON/CN50/RD1 (io), 50 DPH/RP23/CN51/RD2 (io), 51 RP22/PMBE/CN52/RD3 (io), 52 PMWR/RP25/CN13/RD4 (io), 53 PMRD/RP20/CN14/RD5 (io), 54 C3INB/CN15/RD6 (io), 55 C3INA/CN16/RD7 (io), 56 VCAP/VDDCORE (power), 57 ENVREG (in), 58 VBUSST/VCMPST1/CN68/RF0 (io), 59 VCMPST2/CN69/RF1 (io), 60 PMD0/CN58/RE0 (io), 61 PMD1/CN59/RE1 (io), 62 PMD2/CN60/RE2 (io), 63 PMD3/CN61/RE3 (io), 64 PMD4/CN62/RE4 (io)

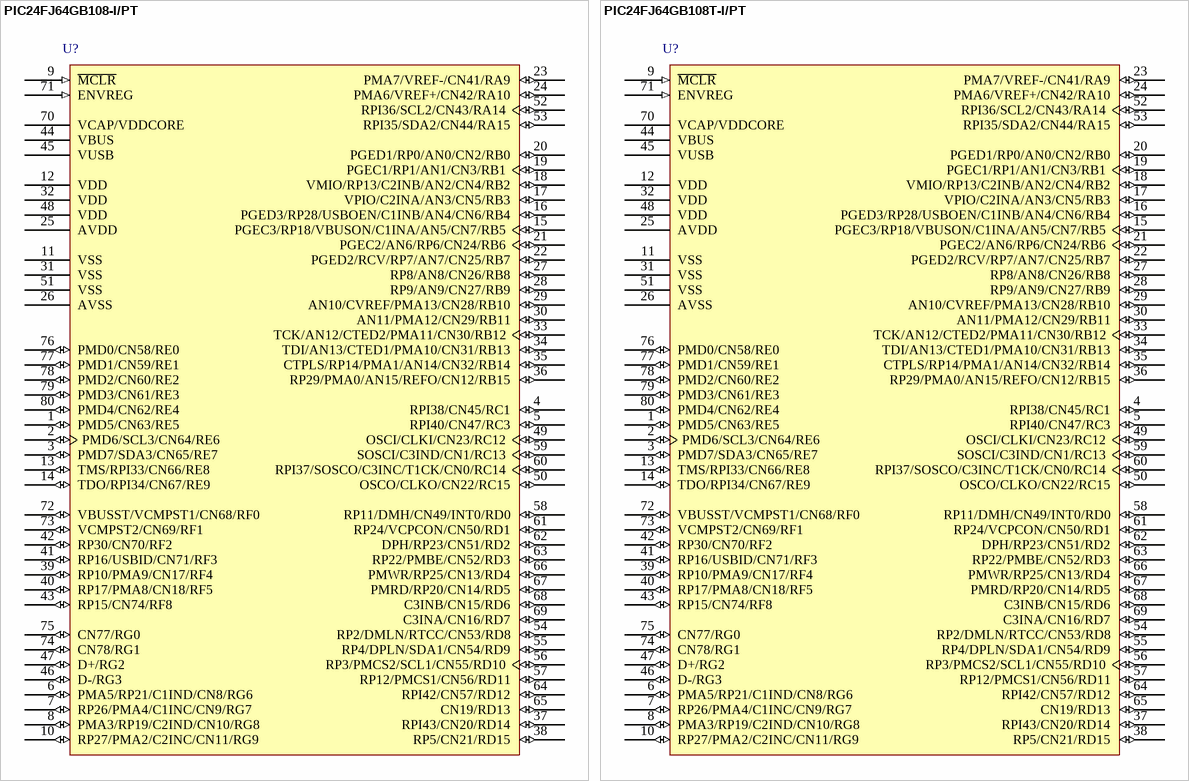
[diagram p11: symbols PIC24FJ64GB108-I/PT to PIC24FJ64GB108T-I/PT]

## PIC24FJ64GB108-I/PT
designator U?
General Purpose 16-Bit Flash Microcontroller with USB On-The-Go, 64KB Flash, 16KB SRAM, 80-Pin TQFP, Industrial Temperature; Published: 29-Jan-2009; DatasheetVersion: revB, Mar-2008; PackageVersion: revAW, Oct-2008; PackageReference: TQFP-PT80; Publisher: Altium Limited; PackageDescription: 80-Lead Thin Plastic Quad Flat Pack (PT) - 12x12x1mm Body, 2.00mm [TQFP]; Code_JEDEC: MS-026; ComponentLink1Description: Manufacturer Link; ComponentLink1URL: http://www.microchip.com; ComponentLink2Description: Datasheet; ComponentLink2URL: http://ww1.microchip.com/downloads/en/DeviceDoc/39897b.pdf; ComponentLink3Description: Packaging Specification; ComponentLink3URL: http://ww1.microchip.com/downloads/en/PackagingSpec/00049AW.pdf
footprint TQFP-PT80_N (Thin QFP, 80-Leads, Body 12x12mm, Pitch 0.5mm, IPC Medium Density)
footprint TQFP-PT80_L (Thin QFP, 80-Leads, Body 12x12mm, Pitch 0.5mm, IPC High Density)
footprint TQFP-PT80_M (Thin QFP, 80-Leads, Body 12x12mm, Pitch 0.5mm, IPC Low Density)
pins: 1 PMD5/CN63/RE5 (io), 2 PMD6/SCL3/CN64/RE6 (io), 3 PMD7/SDA3/CN65/RE7 (io), 4 RPI38/CN45/RC1 (io), 5 RPI40/CN47/RC3 (io), 6 PMA5/RP21/C1IND/CN8/RG6 (io), 7 RP26/PMA4/C1INC/CN9/RG7 (io), 8 PMA3/RP19/C2IND/CN10/RG8 (io), 9 ~{MCLR} (in), 10 RP27/PMA2/C2INC/CN11/RG9 (io), 11 VSS (power), 12 VDD (power), 13 TMS/RPI33/CN66/RE8 (io), 14 TDO/RPI34/CN67/RE9 (io), 15 PGEC3/RP18/VBUSON/C1INA/AN5/CN7/RB5 (io), 16 PGED3/RP28/USBOEN/C1INB/AN4/CN6/RB4 (io), 17 VPIO/C2INA/AN3/CN5/RB3 (io), 18 VMIO/RP13/C2INB/AN2/CN4/RB2 (io), 19 PGEC1/RP1/AN1/CN3/RB1 (io), 20 PGED1/RP0/AN0/CN2/RB0 (io), 21 PGEC2/AN6/RP6/CN24/RB6 (io), 22 PGED2/RCV/RP7/AN7/CN25/RB7 (io), 23 PMA7/VREF-/CN41/RA9 (io), 24 PMA6/VREF+/CN42/RA10 (io), 25 AVDD (power), 26 AVSS (power), 27 RP8/AN8/CN26/RB8 (io), 28 RP9/AN9/CN27/RB9 (io), 29 AN10/CVREF/PMA13/CN28/RB10 (io), 30 AN11/PMA12/CN29/RB11 (io), 31 VSS (power), 32 VDD (power), 33 TCK/AN12/CTED2/PMA11/CN30/RB12 (io), 34 TDI/AN13/CTED1/PMA10/CN31/RB13 (io), 35 CTPLS/RP14/PMA1/AN14/CN32/RB14 (io), 36 RP29/PMA0/AN15/REFO/CN12/RB15 (io), 37 RPI43/CN20/RD14 (io), 38 RP5/CN21/RD15 (io), 39 RP10/PMA9/CN17/RF4 (io), 40 RP17/PMA8/CN18/RF5 (io), 41 RP16/USBID/CN71/RF3 (io), 42 RP30/CN70/RF2 (io), 43 RP15/CN74/RF8 (io), 44 VBUS (power), 45 VUSB (power), 46 D-/RG3 (io), 47 D+/RG2 (io), 48 VDD (power), 49 OSCI/CLKI/CN23/RC12 (io), 50 OSCO/CLKO/CN22/RC15 (io), 51 VSS (power), 52 RPI36/SCL2/CN43/RA14 (io), 53 RPI35/SDA2/CN44/RA15 (io), 54 RP2/DMLN/RTCC/CN53/RD8 (io), 55 RP4/DPLN/SDA1/CN54/RD9 (io), 56 RP3/PMCS2/SCL1/CN55/RD10 (io), 57 RP12/PMCS1/CN56/RD11 (io), 58 RP11/DMH/CN49/INT0/RD0 (io), 59 SOSCI/C3IND/CN1/RC13 (io), 60 RPI37/SOSCO/C3INC/T1CK/CN0/RC14 (io), 61 RP24/VCPCON/CN50/RD1 (io), 62 DPH/RP23/CN51/RD2 (io), 63 RP22/PMBE/CN52/RD3 (io), 64 RPI42/CN57/RD12 (io), 65 CN19/RD13 (io), 66 PMWR/RP25/CN13/RD4 (io), 67 PMRD/RP20/CN14/RD5 (io), 68 C3INB/CN15/RD6 (io), 69 C3INA/CN16/RD7 (io), 70 VCAP/VDDCORE (power), 71 ENVREG (in), 72 VBUSST/VCMPST1/CN68/RF0 (io), 73 VCMPST2/CN69/RF1 (io), 74 CN78/RG1 (io), 75 CN77/RG0 (io), 76 PMD0/CN58/RE0 (io), 77 PMD1/CN59/RE1 (io), 78 PMD2/CN60/RE2 (io), 79 PMD3/CN61/RE3 (io), 80 PMD4/CN62/RE4 (io)

## PIC24FJ64GB108T-I/PT
designator U?
General Purpose 16-Bit Flash Microcontroller with USB On-The-Go, 64KB Flash, 16KB SRAM, 80-Pin TQFP, Industrial Temperature, Tape and Reel; Published: 29-Jan-2009; DatasheetVersion: revB, Mar-2008; PackageVersion: revAW, Oct-2008; PackageReference: TQFP-PT80; Publisher: Altium Limited; PackageDescription: 80-Lead Thin Plastic Quad Flat Pack (PT) - 12x12x1mm Body, 2.00mm [TQFP]; Code_JEDEC: MS-026; ComponentLink1Description: Manufacturer Link; ComponentLink1URL: http://www.microchip.com; ComponentLink2Description: Datasheet; ComponentLink2URL: http://ww1.microchip.com/downloads/en/DeviceDoc/39897b.pdf; ComponentLink3Description: Packaging Specification; ComponentLink3URL: http://ww1.microchip.com/downloads/en/PackagingSpec/00049AW.pdf
footprint TQFP-PT80_N (Thin QFP, 80-Leads, Body 12x12mm, Pitch 0.5mm, IPC Medium Density)
footprint TQFP-PT80_L (Thin QFP, 80-Leads, Body 12x12mm, Pitch 0.5mm, IPC High Density)
footprint TQFP-PT80_M (Thin QFP, 80-Leads, Body 12x12mm, Pitch 0.5mm, IPC Low Density)
pins: 1 PMD5/CN63/RE5 (io), 2 PMD6/SCL3/CN64/RE6 (io), 3 PMD7/SDA3/CN65/RE7 (io), 4 RPI38/CN45/RC1 (io), 5 RPI40/CN47/RC3 (io), 6 PMA5/RP21/C1IND/CN8/RG6 (io), 7 RP26/PMA4/C1INC/CN9/RG7 (io), 8 PMA3/RP19/C2IND/CN10/RG8 (io), 9 ~{MCLR} (in), 10 RP27/PMA2/C2INC/CN11/RG9 (io), 11 VSS (power), 12 VDD (power), 13 TMS/RPI33/CN66/RE8 (io), 14 TDO/RPI34/CN67/RE9 (io), 15 PGEC3/RP18/VBUSON/C1INA/AN5/CN7/RB5 (io), 16 PGED3/RP28/USBOEN/C1INB/AN4/CN6/RB4 (io), 17 VPIO/C2INA/AN3/CN5/RB3 (io), 18 VMIO/RP13/C2INB/AN2/CN4/RB2 (io), 19 PGEC1/RP1/AN1/CN3/RB1 (io), 20 PGED1/RP0/AN0/CN2/RB0 (io), 21 PGEC2/AN6/RP6/CN24/RB6 (io), 22 PGED2/RCV/RP7/AN7/CN25/RB7 (io), 23 PMA7/VREF-/CN41/RA9 (io), 24 PMA6/VREF+/CN42/RA10 (io), 25 AVDD (power), 26 AVSS (power), 27 RP8/AN8/CN26/RB8 (io), 28 RP9/AN9/CN27/RB9 (io), 29 AN10/CVREF/PMA13/CN28/RB10 (io), 30 AN11/PMA12/CN29/RB11 (io), 31 VSS (power), 32 VDD (power), 33 TCK/AN12/CTED2/PMA11/CN30/RB12 (io), 34 TDI/AN13/CTED1/PMA10/CN31/RB13 (io), 35 CTPLS/RP14/PMA1/AN14/CN32/RB14 (io), 36 RP29/PMA0/AN15/REFO/CN12/RB15 (io), 37 RPI43/CN20/RD14 (io), 38 RP5/CN21/RD15 (io), 39 RP10/PMA9/CN17/RF4 (io), 40 RP17/PMA8/CN18/RF5 (io), 41 RP16/USBID/CN71/RF3 (io), 42 RP30/CN70/RF2 (io), 43 RP15/CN74/RF8 (io), 44 VBUS (power), 45 VUSB (power), 46 D-/RG3 (io), 47 D+/RG2 (io), 48 VDD (power), 49 OSCI/CLKI/CN23/RC12 (io), 50 OSCO/CLKO/CN22/RC15 (io), 51 VSS (power), 52 RPI36/SCL2/CN43/RA14 (io), 53 RPI35/SDA2/CN44/RA15 (io), 54 RP2/DMLN/RTCC/CN53/RD8 (io), 55 RP4/DPLN/SDA1/CN54/RD9 (io), 56 RP3/PMCS2/SCL1/CN55/RD10 (io), 57 RP12/PMCS1/CN56/RD11 (io), 58 RP11/DMH/CN49/INT0/RD0 (io), 59 SOSCI/C3IND/CN1/RC13 (io), 60 RPI37/SOSCO/C3INC/T1CK/CN0/RC14 (io), 61 RP24/VCPCON/CN50/RD1 (io), 62 DPH/RP23/CN51/RD2 (io), 63 RP22/PMBE/CN52/RD3 (io), 64 RPI42/CN57/RD12 (io), 65 CN19/RD13 (io), 66 PMWR/RP25/CN13/RD4 (io), 67 PMRD/RP20/CN14/RD5 (io), 68 C3INB/CN15/RD6 (io), 69 C3INA/CN16/RD7 (io), 70 VCAP/VDDCORE (power), 71 ENVREG (in), 72 VBUSST/VCMPST1/CN68/RF0 (io), 73 VCMPST2/CN69/RF1 (io), 74 CN78/RG1 (io), 75 CN77/RG0 (io), 76 PMD0/CN58/RE0 (io), 77 PMD1/CN59/RE1 (io), 78 PMD2/CN60/RE2 (io), 79 PMD3/CN61/RE3 (io), 80 PMD4/CN62/RE4 (io)

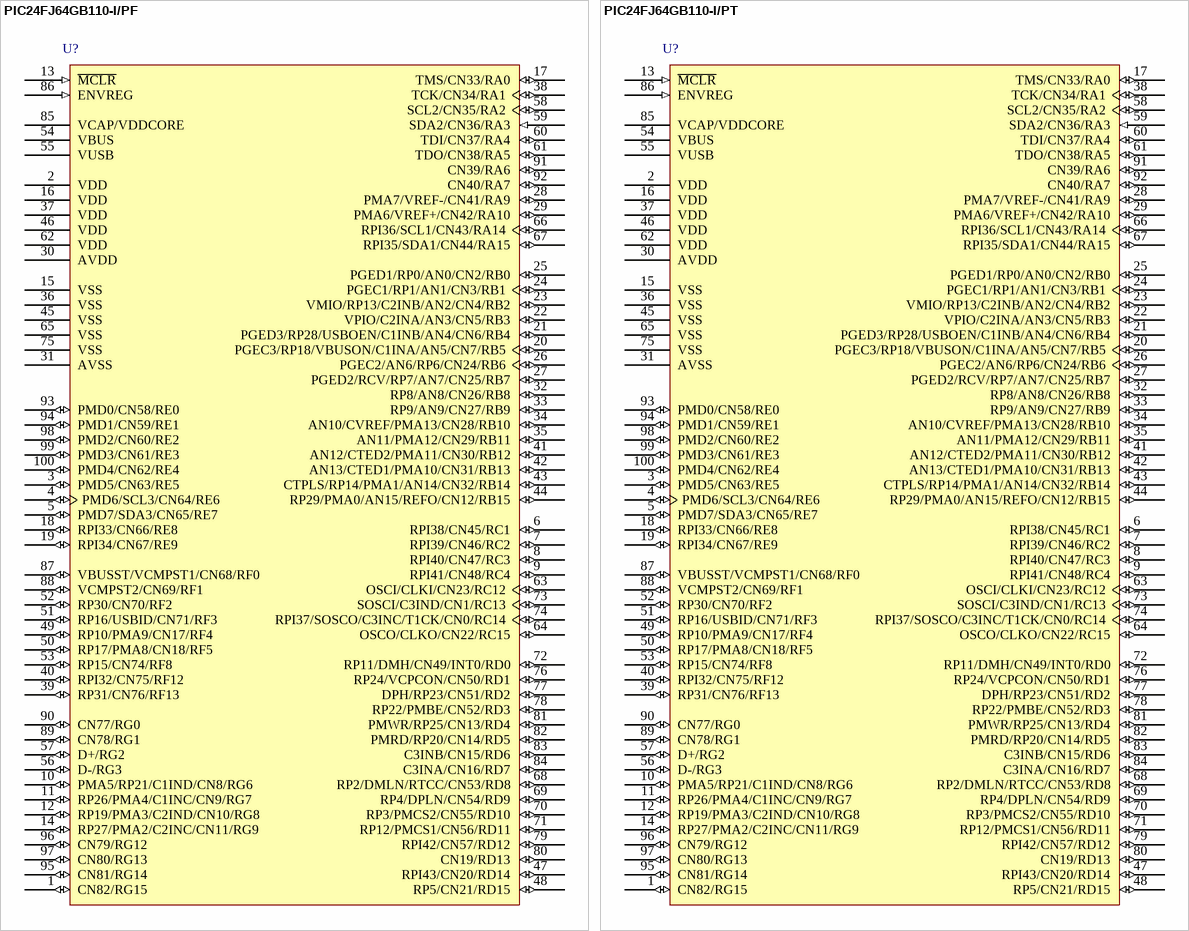
[diagram p12: symbols PIC24FJ64GB110-I/PF to PIC24FJ64GB110-I/PT]

## PIC24FJ64GB110-I/PF
designator U?
General Purpose 16-Bit Flash Microcontroller with USB On-The-Go, 64KB Flash, 16KB SRAM, 100-Pin TQFP (14x14x1 mm), Industrial Temperature; Published: 29-Jan-2009; DatasheetVersion: revB, Mar-2008; PackageVersion: revAW, Oct-2008; PackageReference: TQFP-PF100; Publisher: Altium Limited; PackageDescription: 100-Lead Thin Plastic Quad Flat Pack (PF) - 14x14x1mm Body, 2.00mm [TQFP]; ComponentLink1Description: Manufacturer Link; ComponentLink1URL: http://www.microchip.com; ComponentLink2Description: Datasheet; ComponentLink2URL: http://ww1.microchip.com/downloads/en/DeviceDoc/39897b.pdf; ComponentLink3Description: Packaging Specification; ComponentLink3URL: http://ww1.microchip.com/downloads/en/PackagingSpec/00049AW.pdf
footprint TQFP-PF100_N (Thin QFP, 100-Leads, Body 14x14mm, Pitch 0.5mm, IPC Medium Density)
footprint TQFP-PF100_L (Thin QFP, 100-Leads, Body 14x14mm, Pitch 0.5mm, IPC High Density)
footprint TQFP-PF100_M (Thin QFP, 100-Leads, Body 14x14mm, Pitch 0.5mm, IPC Low Density)
pins: 1 CN82/RG15 (io), 2 VDD (power), 3 PMD5/CN63/RE5 (io), 4 PMD6/SCL3/CN64/RE6 (io), 5 PMD7/SDA3/CN65/RE7 (io), 6 RPI38/CN45/RC1 (io), 7 RPI39/CN46/RC2 (io), 8 RPI40/CN47/RC3 (io), 9 RPI41/CN48/RC4 (io), 10 PMA5/RP21/C1IND/CN8/RG6 (io), 11 RP26/PMA4/C1INC/CN9/RG7 (io), 12 RP19/PMA3/C2IND/CN10/RG8 (io), 13 ~{MCLR} (in), 14 RP27/PMA2/C2INC/CN11/RG9 (io), 15 VSS (power), 16 VDD (power), 17 TMS/CN33/RA0 (io), 18 RPI33/CN66/RE8 (io), 19 RPI34/CN67/RE9 (io), 20 PGEC3/RP18/VBUSON/C1INA/AN5/CN7/RB5 (io), 21 PGED3/RP28/USBOEN/C1INB/AN4/CN6/RB4 (io), 22 VPIO/C2INA/AN3/CN5/RB3 (io), 23 VMIO/RP13/C2INB/AN2/CN4/RB2 (io), 24 PGEC1/RP1/AN1/CN3/RB1 (io), 25 PGED1/RP0/AN0/CN2/RB0 (io), 26 PGEC2/AN6/RP6/CN24/RB6 (io), 27 PGED2/RCV/RP7/AN7/CN25/RB7 (io), 28 PMA7/VREF-/CN41/RA9 (io), 29 PMA6/VREF+/CN42/RA10 (io), 30 AVDD (power), 31 AVSS (power), 32 RP8/AN8/CN26/RB8 (io), 33 RP9/AN9/CN27/RB9 (io), 34 AN10/CVREF/PMA13/CN28/RB10 (io), 35 AN11/PMA12/CN29/RB11 (io), 36 VSS (power), 37 VDD (power), 38 TCK/CN34/RA1 (io), 39 RP31/CN76/RF13 (io), 40 RPI32/CN75/RF12 (io), 41 AN12/CTED2/PMA11/CN30/RB12 (io), 42 AN13/CTED1/PMA10/CN31/RB13 (io), 43 CTPLS/RP14/PMA1/AN14/CN32/RB14 (io), 44 RP29/PMA0/AN15/REFO/CN12/RB15 (io), 45 VSS (power), 46 VDD (power), 47 RPI43/CN20/RD14 (io), 48 RP5/CN21/RD15 (io), 49 RP10/PMA9/CN17/RF4 (io), 50 RP17/PMA8/CN18/RF5 (io), 51 RP16/USBID/CN71/RF3 (io), 52 RP30/CN70/RF2 (io), 53 RP15/CN74/RF8 (io), 54 VBUS (power), 55 VUSB (power), 56 D-/RG3 (io), 57 D+/RG2 (io), 58 SCL2/CN35/RA2 (io), 59 SDA2/CN36/RA3 (in), 60 TDI/CN37/RA4 (io), 61 TDO/CN38/RA5 (io), 62 VDD (power), 63 OSCI/CLKI/CN23/RC12 (io), 64 OSCO/CLKO/CN22/RC15 (io), 65 VSS (power), 66 RPI36/SCL1/CN43/RA14 (io), 67 RPI35/SDA1/CN44/RA15 (io), 68 RP2/DMLN/RTCC/CN53/RD8 (io), 69 RP4/DPLN/CN54/RD9 (io), 70 RP3/PMCS2/CN55/RD10 (io), 71 RP12/PMCS1/CN56/RD11 (io), 72 RP11/DMH/CN49/INT0/RD0 (io), 73 SOSCI/C3IND/CN1/RC13 (io), 74 RPI37/SOSCO/C3INC/T1CK/CN0/RC14 (io), 75 VSS (power), 76 RP24/VCPCON/CN50/RD1 (io), 77 DPH/RP23/CN51/RD2 (io), 78 RP22/PMBE/CN52/RD3 (io), 79 RPI42/CN57/RD12 (io), 80 CN19/RD13 (io), 81 PMWR/RP25/CN13/RD4 (io), 82 PMRD/RP20/CN14/RD5 (io), 83 C3INB/CN15/RD6 (io), 84 C3INA/CN16/RD7 (io), 85 VCAP/VDDCORE (power), 86 ENVREG (in), 87 VBUSST/VCMPST1/CN68/RF0 (io), 88 VCMPST2/CN69/RF1 (io), 89 CN78/RG1 (io), 90 CN77/RG0 (io), 91 CN39/RA6 (io), 92 CN40/RA7 (io), 93 PMD0/CN58/RE0 (io), 94 PMD1/CN59/RE1 (io), 95 CN81/RG14 (io), 96 CN79/RG12 (io), 97 CN80/RG13 (io), 98 PMD2/CN60/RE2 (io), 99 PMD3/CN61/RE3 (io), 100 PMD4/CN62/RE4 (io)

## PIC24FJ64GB110-I/PT
designator U?
General Purpose 16-Bit Flash Microcontroller with USB On-The-Go, 64KB Flash, 16KB SRAM, 100-Pin TQFP (12x12x1 mm), Industrial Temperature; Published: 29-Jan-2009; DatasheetVersion: revB, Mar-2008; PackageVersion: revAW, Oct-2008; PackageReference: TQFP-PT100; Publisher: Altium Limited; PackageDescription: 100-Lead Plastic Thin Quad Flatpack (PT) - 12x12x1mm Body, 2.00mm [TQFP]; ComponentLink1Description: Manufacturer Link; ComponentLink1URL: http://www.microchip.com; ComponentLink2Description: Datasheet; ComponentLink2URL: http://ww1.microchip.com/downloads/en/DeviceDoc/39897b.pdf; ComponentLink3Description: Packaging Specification; ComponentLink3URL: http://ww1.microchip.com/downloads/en/PackagingSpec/00049AW.pdf
footprint TQFP-PT100_N (Thin QFP, 100-Leads, Body 12x12mm, Pitch 0.4mm, IPC Medium Density)
footprint TQFP-PT100_L (Thin QFP, 100-Leads, Body 12x12mm, Pitch 0.4mm, IPC High Density)
footprint TQFP-PT100_M (Thin QFP, 100-Leads, Body 12x12mm, Pitch 0.4mm, IPC Low Density)
pins: 1 CN82/RG15 (io), 2 VDD (power), 3 PMD5/CN63/RE5 (io), 4 PMD6/SCL3/CN64/RE6 (io), 5 PMD7/SDA3/CN65/RE7 (io), 6 RPI38/CN45/RC1 (io), 7 RPI39/CN46/RC2 (io), 8 RPI40/CN47/RC3 (io), 9 RPI41/CN48/RC4 (io), 10 PMA5/RP21/C1IND/CN8/RG6 (io), 11 RP26/PMA4/C1INC/CN9/RG7 (io), 12 RP19/PMA3/C2IND/CN10/RG8 (io), 13 ~{MCLR} (in), 14 RP27/PMA2/C2INC/CN11/RG9 (io), 15 VSS (power), 16 VDD (power), 17 TMS/CN33/RA0 (io), 18 RPI33/CN66/RE8 (io), 19 RPI34/CN67/RE9 (io), 20 PGEC3/RP18/VBUSON/C1INA/AN5/CN7/RB5 (io), 21 PGED3/RP28/USBOEN/C1INB/AN4/CN6/RB4 (io), 22 VPIO/C2INA/AN3/CN5/RB3 (io), 23 VMIO/RP13/C2INB/AN2/CN4/RB2 (io), 24 PGEC1/RP1/AN1/CN3/RB1 (io), 25 PGED1/RP0/AN0/CN2/RB0 (io), 26 PGEC2/AN6/RP6/CN24/RB6 (io), 27 PGED2/RCV/RP7/AN7/CN25/RB7 (io), 28 PMA7/VREF-/CN41/RA9 (io), 29 PMA6/VREF+/CN42/RA10 (io), 30 AVDD (power), 31 AVSS (power), 32 RP8/AN8/CN26/RB8 (io), 33 RP9/AN9/CN27/RB9 (io), 34 AN10/CVREF/PMA13/CN28/RB10 (io), 35 AN11/PMA12/CN29/RB11 (io), 36 VSS (power), 37 VDD (power), 38 TCK/CN34/RA1 (io), 39 RP31/CN76/RF13 (io), 40 RPI32/CN75/RF12 (io), 41 AN12/CTED2/PMA11/CN30/RB12 (io), 42 AN13/CTED1/PMA10/CN31/RB13 (io), 43 CTPLS/RP14/PMA1/AN14/CN32/RB14 (io), 44 RP29/PMA0/AN15/REFO/CN12/RB15 (io), 45 VSS (power), 46 VDD (power), 47 RPI43/CN20/RD14 (io), 48 RP5/CN21/RD15 (io), 49 RP10/PMA9/CN17/RF4 (io), 50 RP17/PMA8/CN18/RF5 (io), 51 RP16/USBID/CN71/RF3 (io), 52 RP30/CN70/RF2 (io), 53 RP15/CN74/RF8 (io), 54 VBUS (power), 55 VUSB (power), 56 D-/RG3 (io), 57 D+/RG2 (io), 58 SCL2/CN35/RA2 (io), 59 SDA2/CN36/RA3 (in), 60 TDI/CN37/RA4 (io), 61 TDO/CN38/RA5 (io), 62 VDD (power), 63 OSCI/CLKI/CN23/RC12 (io), 64 OSCO/CLKO/CN22/RC15 (io), 65 VSS (power), 66 RPI36/SCL1/CN43/RA14 (io), 67 RPI35/SDA1/CN44/RA15 (io), 68 RP2/DMLN/RTCC/CN53/RD8 (io), 69 RP4/DPLN/CN54/RD9 (io), 70 RP3/PMCS2/CN55/RD10 (io), 71 RP12/PMCS1/CN56/RD11 (io), 72 RP11/DMH/CN49/INT0/RD0 (io), 73 SOSCI/C3IND/CN1/RC13 (io), 74 RPI37/SOSCO/C3INC/T1CK/CN0/RC14 (io), 75 VSS (power), 76 RP24/VCPCON/CN50/RD1 (io), 77 DPH/RP23/CN51/RD2 (io), 78 RP22/PMBE/CN52/RD3 (io), 79 RPI42/CN57/RD12 (io), 80 CN19/RD13 (io), 81 PMWR/RP25/CN13/RD4 (io), 82 PMRD/RP20/CN14/RD5 (io), 83 C3INB/CN15/RD6 (io), 84 C3INA/CN16/RD7 (io), 85 VCAP/VDDCORE (power), 86 ENVREG (in), 87 VBUSST/VCMPST1/CN68/RF0 (io), 88 VCMPST2/CN69/RF1 (io), 89 CN78/RG1 (io), 90 CN77/RG0 (io), 91 CN39/RA6 (io), 92 CN40/RA7 (io), 93 PMD0/CN58/RE0 (io), 94 PMD1/CN59/RE1 (io), 95 CN81/RG14 (io), 96 CN79/RG12 (io), 97 CN80/RG13 (io), 98 PMD2/CN60/RE2 (io), 99 PMD3/CN61/RE3 (io), 100 PMD4/CN62/RE4 (io)

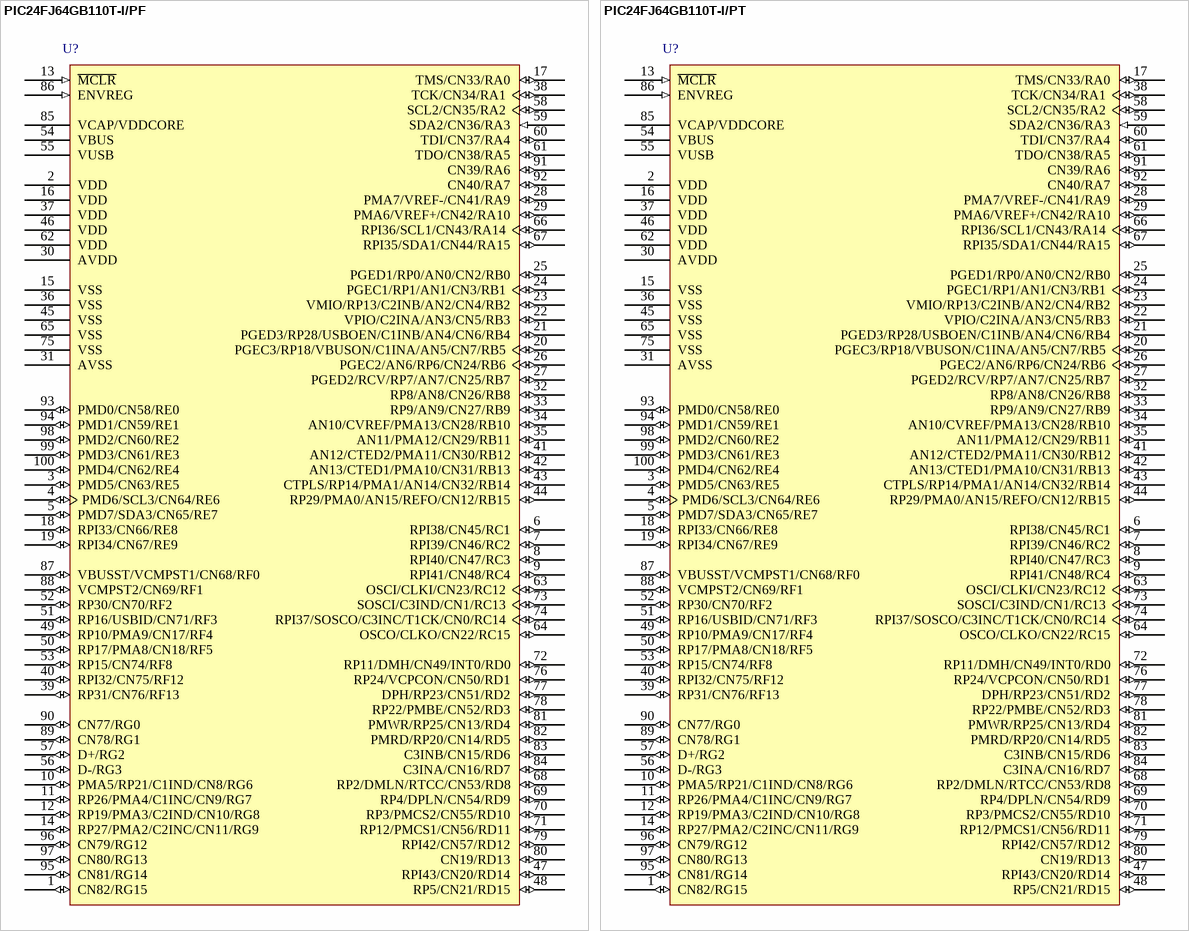
[diagram p13: symbols PIC24FJ64GB110T-I/PF to PIC24FJ64GB110T-I/PT]

## PIC24FJ64GB110T-I/PF
designator U?
General Purpose 16-Bit Flash Microcontroller with USB On-The-Go, 64KB Flash, 16KB SRAM, 100-Pin TQFP (14x14x1 mm), Industrial Temperature, Tape and Reel; Published: 29-Jan-2009; DatasheetVersion: revB, Mar-2008; PackageVersion: revAW, Oct-2008; PackageReference: TQFP-PF100; Publisher: Altium Limited; PackageDescription: 100-Lead Thin Plastic Quad Flat Pack (PF) - 14x14x1mm Body, 2.00mm [TQFP]; ComponentLink1Description: Manufacturer Link; ComponentLink1URL: http://www.microchip.com; ComponentLink2Description: Datasheet; ComponentLink2URL: http://ww1.microchip.com/downloads/en/DeviceDoc/39897b.pdf; ComponentLink3Description: Packaging Specification; ComponentLink3URL: http://ww1.microchip.com/downloads/en/PackagingSpec/00049AW.pdf
footprint TQFP-PF100_N (Thin QFP, 100-Leads, Body 14x14mm, Pitch 0.5mm, IPC Medium Density)
footprint TQFP-PF100_L (Thin QFP, 100-Leads, Body 14x14mm, Pitch 0.5mm, IPC High Density)
footprint TQFP-PF100_M (Thin QFP, 100-Leads, Body 14x14mm, Pitch 0.5mm, IPC Low Density)
pins: 1 CN82/RG15 (io), 2 VDD (power), 3 PMD5/CN63/RE5 (io), 4 PMD6/SCL3/CN64/RE6 (io), 5 PMD7/SDA3/CN65/RE7 (io), 6 RPI38/CN45/RC1 (io), 7 RPI39/CN46/RC2 (io), 8 RPI40/CN47/RC3 (io), 9 RPI41/CN48/RC4 (io), 10 PMA5/RP21/C1IND/CN8/RG6 (io), 11 RP26/PMA4/C1INC/CN9/RG7 (io), 12 RP19/PMA3/C2IND/CN10/RG8 (io), 13 ~{MCLR} (in), 14 RP27/PMA2/C2INC/CN11/RG9 (io), 15 VSS (power), 16 VDD (power), 17 TMS/CN33/RA0 (io), 18 RPI33/CN66/RE8 (io), 19 RPI34/CN67/RE9 (io), 20 PGEC3/RP18/VBUSON/C1INA/AN5/CN7/RB5 (io), 21 PGED3/RP28/USBOEN/C1INB/AN4/CN6/RB4 (io), 22 VPIO/C2INA/AN3/CN5/RB3 (io), 23 VMIO/RP13/C2INB/AN2/CN4/RB2 (io), 24 PGEC1/RP1/AN1/CN3/RB1 (io), 25 PGED1/RP0/AN0/CN2/RB0 (io), 26 PGEC2/AN6/RP6/CN24/RB6 (io), 27 PGED2/RCV/RP7/AN7/CN25/RB7 (io), 28 PMA7/VREF-/CN41/RA9 (io), 29 PMA6/VREF+/CN42/RA10 (io), 30 AVDD (power), 31 AVSS (power), 32 RP8/AN8/CN26/RB8 (io), 33 RP9/AN9/CN27/RB9 (io), 34 AN10/CVREF/PMA13/CN28/RB10 (io), 35 AN11/PMA12/CN29/RB11 (io), 36 VSS (power), 37 VDD (power), 38 TCK/CN34/RA1 (io), 39 RP31/CN76/RF13 (io), 40 RPI32/CN75/RF12 (io), 41 AN12/CTED2/PMA11/CN30/RB12 (io), 42 AN13/CTED1/PMA10/CN31/RB13 (io), 43 CTPLS/RP14/PMA1/AN14/CN32/RB14 (io), 44 RP29/PMA0/AN15/REFO/CN12/RB15 (io), 45 VSS (power), 46 VDD (power), 47 RPI43/CN20/RD14 (io), 48 RP5/CN21/RD15 (io), 49 RP10/PMA9/CN17/RF4 (io), 50 RP17/PMA8/CN18/RF5 (io), 51 RP16/USBID/CN71/RF3 (io), 52 RP30/CN70/RF2 (io), 53 RP15/CN74/RF8 (io), 54 VBUS (power), 55 VUSB (power), 56 D-/RG3 (io), 57 D+/RG2 (io), 58 SCL2/CN35/RA2 (io), 59 SDA2/CN36/RA3 (in), 60 TDI/CN37/RA4 (io), 61 TDO/CN38/RA5 (io), 62 VDD (power), 63 OSCI/CLKI/CN23/RC12 (io), 64 OSCO/CLKO/CN22/RC15 (io), 65 VSS (power), 66 RPI36/SCL1/CN43/RA14 (io), 67 RPI35/SDA1/CN44/RA15 (io), 68 RP2/DMLN/RTCC/CN53/RD8 (io), 69 RP4/DPLN/CN54/RD9 (io), 70 RP3/PMCS2/CN55/RD10 (io), 71 RP12/PMCS1/CN56/RD11 (io), 72 RP11/DMH/CN49/INT0/RD0 (io), 73 SOSCI/C3IND/CN1/RC13 (io), 74 RPI37/SOSCO/C3INC/T1CK/CN0/RC14 (io), 75 VSS (power), 76 RP24/VCPCON/CN50/RD1 (io), 77 DPH/RP23/CN51/RD2 (io), 78 RP22/PMBE/CN52/RD3 (io), 79 RPI42/CN57/RD12 (io), 80 CN19/RD13 (io), 81 PMWR/RP25/CN13/RD4 (io), 82 PMRD/RP20/CN14/RD5 (io), 83 C3INB/CN15/RD6 (io), 84 C3INA/CN16/RD7 (io), 85 VCAP/VDDCORE (power), 86 ENVREG (in), 87 VBUSST/VCMPST1/CN68/RF0 (io), 88 VCMPST2/CN69/RF1 (io), 89 CN78/RG1 (io), 90 CN77/RG0 (io), 91 CN39/RA6 (io), 92 CN40/RA7 (io), 93 PMD0/CN58/RE0 (io), 94 PMD1/CN59/RE1 (io), 95 CN81/RG14 (io), 96 CN79/RG12 (io), 97 CN80/RG13 (io), 98 PMD2/CN60/RE2 (io), 99 PMD3/CN61/RE3 (io), 100 PMD4/CN62/RE4 (io)

## PIC24FJ64GB110T-I/PT
designator U?
General Purpose 16-Bit Flash Microcontroller with USB On-The-Go, 64KB Flash, 16KB SRAM, 100-Pin TQFP (12x12x1 mm), Industrial Temperature, Tape and Reel; Published: 29-Jan-2009; DatasheetVersion: revB, Mar-2008; PackageVersion: revAW, Oct-2008; PackageReference: TQFP-PT100; Publisher: Altium Limited; PackageDescription: 100-Lead Plastic Thin Quad Flatpack (PT) - 12x12x1mm Body, 2.00mm [TQFP]; ComponentLink1Description: Manufacturer Link; ComponentLink1URL: http://www.microchip.com; ComponentLink2Description: Datasheet; ComponentLink2URL: http://ww1.microchip.com/downloads/en/DeviceDoc/39897b.pdf; ComponentLink3Description: Packaging Specification; ComponentLink3URL: http://ww1.microchip.com/downloads/en/PackagingSpec/00049AW.pdf
footprint TQFP-PT100_N (Thin QFP, 100-Leads, Body 12x12mm, Pitch 0.4mm, IPC Medium Density)
footprint TQFP-PT100_L (Thin QFP, 100-Leads, Body 12x12mm, Pitch 0.4mm, IPC High Density)
footprint TQFP-PT100_M (Thin QFP, 100-Leads, Body 12x12mm, Pitch 0.4mm, IPC Low Density)
pins: 1 CN82/RG15 (io), 2 VDD (power), 3 PMD5/CN63/RE5 (io), 4 PMD6/SCL3/CN64/RE6 (io), 5 PMD7/SDA3/CN65/RE7 (io), 6 RPI38/CN45/RC1 (io), 7 RPI39/CN46/RC2 (io), 8 RPI40/CN47/RC3 (io), 9 RPI41/CN48/RC4 (io), 10 PMA5/RP21/C1IND/CN8/RG6 (io), 11 RP26/PMA4/C1INC/CN9/RG7 (io), 12 RP19/PMA3/C2IND/CN10/RG8 (io), 13 ~{MCLR} (in), 14 RP27/PMA2/C2INC/CN11/RG9 (io), 15 VSS (power), 16 VDD (power), 17 TMS/CN33/RA0 (io), 18 RPI33/CN66/RE8 (io), 19 RPI34/CN67/RE9 (io), 20 PGEC3/RP18/VBUSON/C1INA/AN5/CN7/RB5 (io), 21 PGED3/RP28/USBOEN/C1INB/AN4/CN6/RB4 (io), 22 VPIO/C2INA/AN3/CN5/RB3 (io), 23 VMIO/RP13/C2INB/AN2/CN4/RB2 (io), 24 PGEC1/RP1/AN1/CN3/RB1 (io), 25 PGED1/RP0/AN0/CN2/RB0 (io), 26 PGEC2/AN6/RP6/CN24/RB6 (io), 27 PGED2/RCV/RP7/AN7/CN25/RB7 (io), 28 PMA7/VREF-/CN41/RA9 (io), 29 PMA6/VREF+/CN42/RA10 (io), 30 AVDD (power), 31 AVSS (power), 32 RP8/AN8/CN26/RB8 (io), 33 RP9/AN9/CN27/RB9 (io), 34 AN10/CVREF/PMA13/CN28/RB10 (io), 35 AN11/PMA12/CN29/RB11 (io), 36 VSS (power), 37 VDD (power), 38 TCK/CN34/RA1 (io), 39 RP31/CN76/RF13 (io), 40 RPI32/CN75/RF12 (io), 41 AN12/CTED2/PMA11/CN30/RB12 (io), 42 AN13/CTED1/PMA10/CN31/RB13 (io), 43 CTPLS/RP14/PMA1/AN14/CN32/RB14 (io), 44 RP29/PMA0/AN15/REFO/CN12/RB15 (io), 45 VSS (power), 46 VDD (power), 47 RPI43/CN20/RD14 (io), 48 RP5/CN21/RD15 (io), 49 RP10/PMA9/CN17/RF4 (io), 50 RP17/PMA8/CN18/RF5 (io), 51 RP16/USBID/CN71/RF3 (io), 52 RP30/CN70/RF2 (io), 53 RP15/CN74/RF8 (io), 54 VBUS (power), 55 VUSB (power), 56 D-/RG3 (io), 57 D+/RG2 (io), 58 SCL2/CN35/RA2 (io), 59 SDA2/CN36/RA3 (in), 60 TDI/CN37/RA4 (io), 61 TDO/CN38/RA5 (io), 62 VDD (power), 63 OSCI/CLKI/CN23/RC12 (io), 64 OSCO/CLKO/CN22/RC15 (io), 65 VSS (power), 66 RPI36/SCL1/CN43/RA14 (io), 67 RPI35/SDA1/CN44/RA15 (io), 68 RP2/DMLN/RTCC/CN53/RD8 (io), 69 RP4/DPLN/CN54/RD9 (io), 70 RP3/PMCS2/CN55/RD10 (io), 71 RP12/PMCS1/CN56/RD11 (io), 72 RP11/DMH/CN49/INT0/RD0 (io), 73 SOSCI/C3IND/CN1/RC13 (io), 74 RPI37/SOSCO/C3INC/T1CK/CN0/RC14 (io), 75 VSS (power), 76 RP24/VCPCON/CN50/RD1 (io), 77 DPH/RP23/CN51/RD2 (io), 78 RP22/PMBE/CN52/RD3 (io), 79 RPI42/CN57/RD12 (io), 80 CN19/RD13 (io), 81 PMWR/RP25/CN13/RD4 (io), 82 PMRD/RP20/CN14/RD5 (io), 83 C3INB/CN15/RD6 (io), 84 C3INA/CN16/RD7 (io), 85 VCAP/VDDCORE (power), 86 ENVREG (in), 87 VBUSST/VCMPST1/CN68/RF0 (io), 88 VCMPST2/CN69/RF1 (io), 89 CN78/RG1 (io), 90 CN77/RG0 (io), 91 CN39/RA6 (io), 92 CN40/RA7 (io), 93 PMD0/CN58/RE0 (io), 94 PMD1/CN59/RE1 (io), 95 CN81/RG14 (io), 96 CN79/RG12 (io), 97 CN80/RG13 (io), 98 PMD2/CN60/RE2 (io), 99 PMD3/CN61/RE3 (io), 100 PMD4/CN62/RE4 (io)

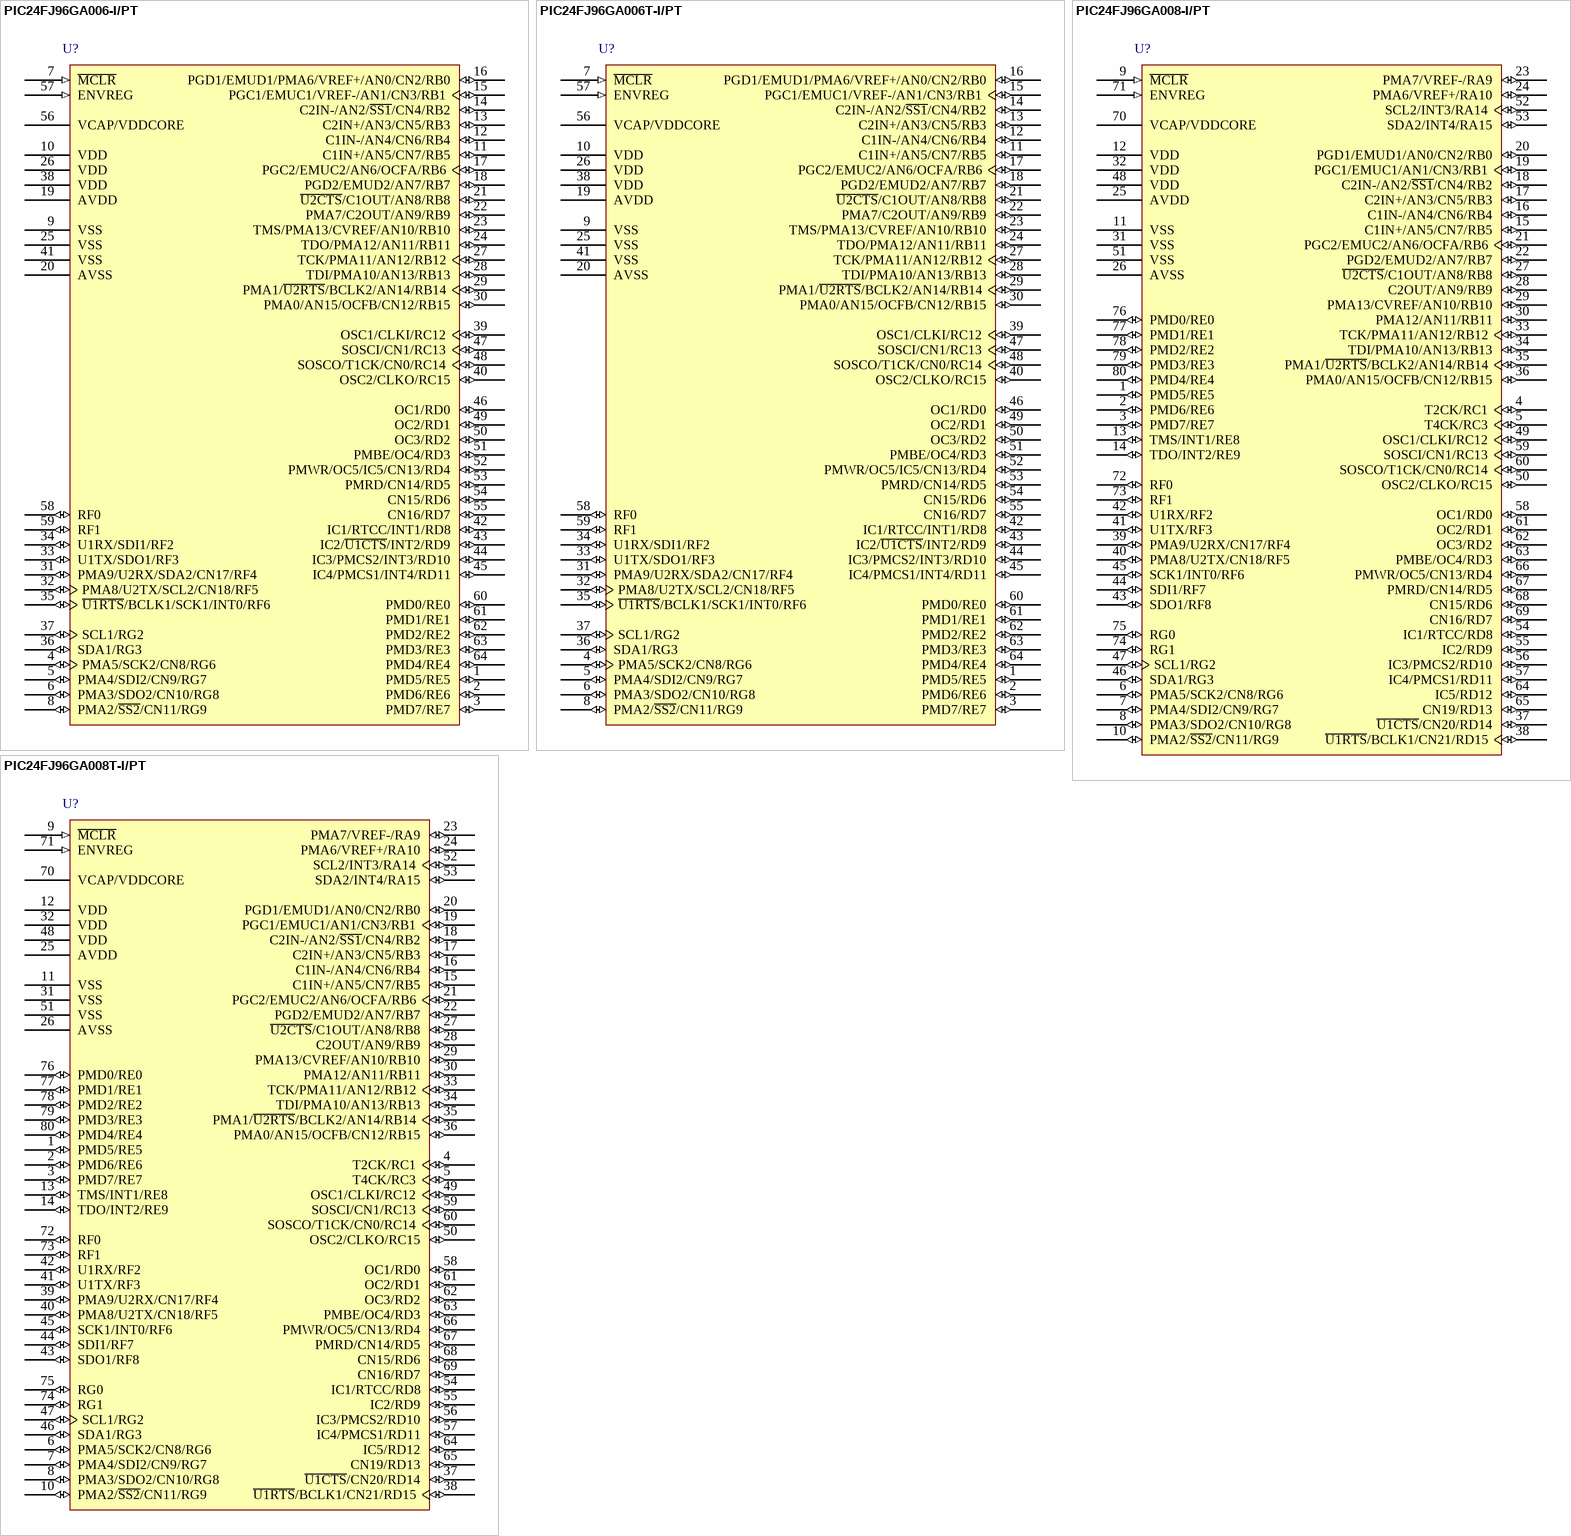
[diagram p14: symbols PIC24FJ96GA006-I/PT to PIC24FJ96GA008T-I/PT]

## PIC24FJ96GA006-I/PT
designator U?
General Purpose 16-Bit Flash Microcontroller, 96KB Flash, 8KB SRAM, 64-Pin TQFP, Industrial Temperature; Published: 29-Jan-2009; DatasheetVersion: revD, Sep-2007; PackageVersion: revAW, Oct-2008; PackageReference: TQFP-PT64; Publisher: Altium Limited; PackageDescription: 64-Lead Thin Plastic Quad Flat Pack (PT) - 10x10x1mm Body, 2.00mm [TQFP]; Code_JEDEC: MS-026; ComponentLink1Description: Manufacturer Link; ComponentLink1URL: http://www.microchip.com; ComponentLink2Description: Datasheet; ComponentLink2URL: http://ww1.microchip.com/downloads/en/DeviceDoc/39747d.pdf; ComponentLink3Description: Packaging Specification; ComponentLink3URL: http://ww1.microchip.com/downloads/en/PackagingSpec/00049AW.pdf
footprint TQFP-PT64_N (Thin QFP, 64-Leads, Body 10x10mm, Pitch 0.5mm, IPC Medium Density)
footprint TQFP-PT64_L (Thin QFP, 64-Leads, Body 10x10mm, Pitch 0.5mm, IPC High Density)
footprint TQFP-PT64_M (Thin QFP, 64-Leads, Body 10x10mm, Pitch 0.5mm, IPC Low Density)
pins: 1 PMD5/RE5 (io), 2 PMD6/RE6 (io), 3 PMD7/RE7 (io), 4 PMA5/SCK2/CN8/RG6 (io), 5 PMA4/SDI2/CN9/RG7 (io), 6 PMA3/SDO2/CN10/RG8 (io), 7 ~{MCLR} (in), 8 PMA2/~{SS2}/CN11/RG9 (io), 9 VSS (power), 10 VDD (power), 11 C1IN+/AN5/CN7/RB5 (io), 12 C1IN-/AN4/CN6/RB4 (io), 13 C2IN+/AN3/CN5/RB3 (io), 14 C2IN-/AN2/~{SS1}/CN4/RB2 (io), 15 PGC1/EMUC1/VREF-/AN1/CN3/RB1 (io), 16 PGD1/EMUD1/PMA6/VREF+/AN0/CN2/RB0 (io), 17 PGC2/EMUC2/AN6/OCFA/RB6 (io), 18 PGD2/EMUD2/AN7/RB7 (io), 19 AVDD (power), 20 AVSS (power), 21 ~{U2CTS}/C1OUT/AN8/RB8 (io), 22 PMA7/C2OUT/AN9/RB9 (io), 23 TMS/PMA13/CVREF/AN10/RB10 (io), 24 TDO/PMA12/AN11/RB11 (io), 25 VSS (power), 26 VDD (power), 27 TCK/PMA11/AN12/RB12 (io), 28 TDI/PMA10/AN13/RB13 (io), 29 PMA1/~{U2RTS}/BCLK2/AN14/RB14 (io), 30 PMA0/AN15/OCFB/CN12/RB15 (io), 31 PMA9/U2RX/SDA2/CN17/RF4 (io), 32 PMA8/U2TX/SCL2/CN18/RF5 (io), 33 U1TX/SDO1/RF3 (io), 34 U1RX/SDI1/RF2 (io), 35 ~{U1RTS}/BCLK1/SCK1/INT0/RF6 (io), 36 SDA1/RG3 (io), 37 SCL1/RG2 (io), 38 VDD (power), 39 OSC1/CLKI/RC12 (io), 40 OSC2/CLKO/RC15 (io), 41 VSS (power), 42 IC1/RTCC/INT1/RD8 (io), 43 IC2/~{U1CTS}/INT2/RD9 (io), 44 IC3/PMCS2/INT3/RD10 (io), 45 IC4/PMCS1/INT4/RD11 (io), 46 OC1/RD0 (io), 47 SOSCI/CN1/RC13 (io), 48 SOSCO/T1CK/CN0/RC14 (io), 49 OC2/RD1 (io), 50 OC3/RD2 (io), 51 PMBE/OC4/RD3 (io), 52 PMWR/OC5/IC5/CN13/RD4 (io), 53 PMRD/CN14/RD5 (io), 54 CN15/RD6 (io), 55 CN16/RD7 (io), 56 VCAP/VDDCORE (power), 57 ENVREG (in), 58 RF0 (io), 59 RF1 (io), 60 PMD0/RE0 (io), 61 PMD1/RE1 (io), 62 PMD2/RE2 (io), 63 PMD3/RE3 (io), 64 PMD4/RE4 (io)

## PIC24FJ96GA006T-I/PT
designator U?
General Purpose 16-Bit Flash Microcontroller, 96KB Flash, 8KB SRAM, 64-Pin TQFP, Industrial Temperature, Tape and Reel; Published: 29-Jan-2009; DatasheetVersion: revD, Sep-2007; PackageVersion: revAW, Oct-2008; PackageReference: TQFP-PT64; Publisher: Altium Limited; PackageDescription: 64-Lead Thin Plastic Quad Flat Pack (PT) - 10x10x1mm Body, 2.00mm [TQFP]; Code_JEDEC: MS-026; ComponentLink1Description: Manufacturer Link; ComponentLink1URL: http://www.microchip.com; ComponentLink2Description: Datasheet; ComponentLink2URL: http://ww1.microchip.com/downloads/en/DeviceDoc/39747d.pdf; ComponentLink3Description: Packaging Specification; ComponentLink3URL: http://ww1.microchip.com/downloads/en/PackagingSpec/00049AW.pdf
footprint TQFP-PT64_N (Thin QFP, 64-Leads, Body 10x10mm, Pitch 0.5mm, IPC Medium Density)
footprint TQFP-PT64_L (Thin QFP, 64-Leads, Body 10x10mm, Pitch 0.5mm, IPC High Density)
footprint TQFP-PT64_M (Thin QFP, 64-Leads, Body 10x10mm, Pitch 0.5mm, IPC Low Density)
pins: 1 PMD5/RE5 (io), 2 PMD6/RE6 (io), 3 PMD7/RE7 (io), 4 PMA5/SCK2/CN8/RG6 (io), 5 PMA4/SDI2/CN9/RG7 (io), 6 PMA3/SDO2/CN10/RG8 (io), 7 ~{MCLR} (in), 8 PMA2/~{SS2}/CN11/RG9 (io), 9 VSS (power), 10 VDD (power), 11 C1IN+/AN5/CN7/RB5 (io), 12 C1IN-/AN4/CN6/RB4 (io), 13 C2IN+/AN3/CN5/RB3 (io), 14 C2IN-/AN2/~{SS1}/CN4/RB2 (io), 15 PGC1/EMUC1/VREF-/AN1/CN3/RB1 (io), 16 PGD1/EMUD1/PMA6/VREF+/AN0/CN2/RB0 (io), 17 PGC2/EMUC2/AN6/OCFA/RB6 (io), 18 PGD2/EMUD2/AN7/RB7 (io), 19 AVDD (power), 20 AVSS (power), 21 ~{U2CTS}/C1OUT/AN8/RB8 (io), 22 PMA7/C2OUT/AN9/RB9 (io), 23 TMS/PMA13/CVREF/AN10/RB10 (io), 24 TDO/PMA12/AN11/RB11 (io), 25 VSS (power), 26 VDD (power), 27 TCK/PMA11/AN12/RB12 (io), 28 TDI/PMA10/AN13/RB13 (io), 29 PMA1/~{U2RTS}/BCLK2/AN14/RB14 (io), 30 PMA0/AN15/OCFB/CN12/RB15 (io), 31 PMA9/U2RX/SDA2/CN17/RF4 (io), 32 PMA8/U2TX/SCL2/CN18/RF5 (io), 33 U1TX/SDO1/RF3 (io), 34 U1RX/SDI1/RF2 (io), 35 ~{U1RTS}/BCLK1/SCK1/INT0/RF6 (io), 36 SDA1/RG3 (io), 37 SCL1/RG2 (io), 38 VDD (power), 39 OSC1/CLKI/RC12 (io), 40 OSC2/CLKO/RC15 (io), 41 VSS (power), 42 IC1/RTCC/INT1/RD8 (io), 43 IC2/~{U1CTS}/INT2/RD9 (io), 44 IC3/PMCS2/INT3/RD10 (io), 45 IC4/PMCS1/INT4/RD11 (io), 46 OC1/RD0 (io), 47 SOSCI/CN1/RC13 (io), 48 SOSCO/T1CK/CN0/RC14 (io), 49 OC2/RD1 (io), 50 OC3/RD2 (io), 51 PMBE/OC4/RD3 (io), 52 PMWR/OC5/IC5/CN13/RD4 (io), 53 PMRD/CN14/RD5 (io), 54 CN15/RD6 (io), 55 CN16/RD7 (io), 56 VCAP/VDDCORE (power), 57 ENVREG (in), 58 RF0 (io), 59 RF1 (io), 60 PMD0/RE0 (io), 61 PMD1/RE1 (io), 62 PMD2/RE2 (io), 63 PMD3/RE3 (io), 64 PMD4/RE4 (io)